# Altium schematic symbol library Microschemes.SchLib: 118 symbols (part 1 of 2)
Pins are listed as number, name and electrical type; pins without a type are passive.

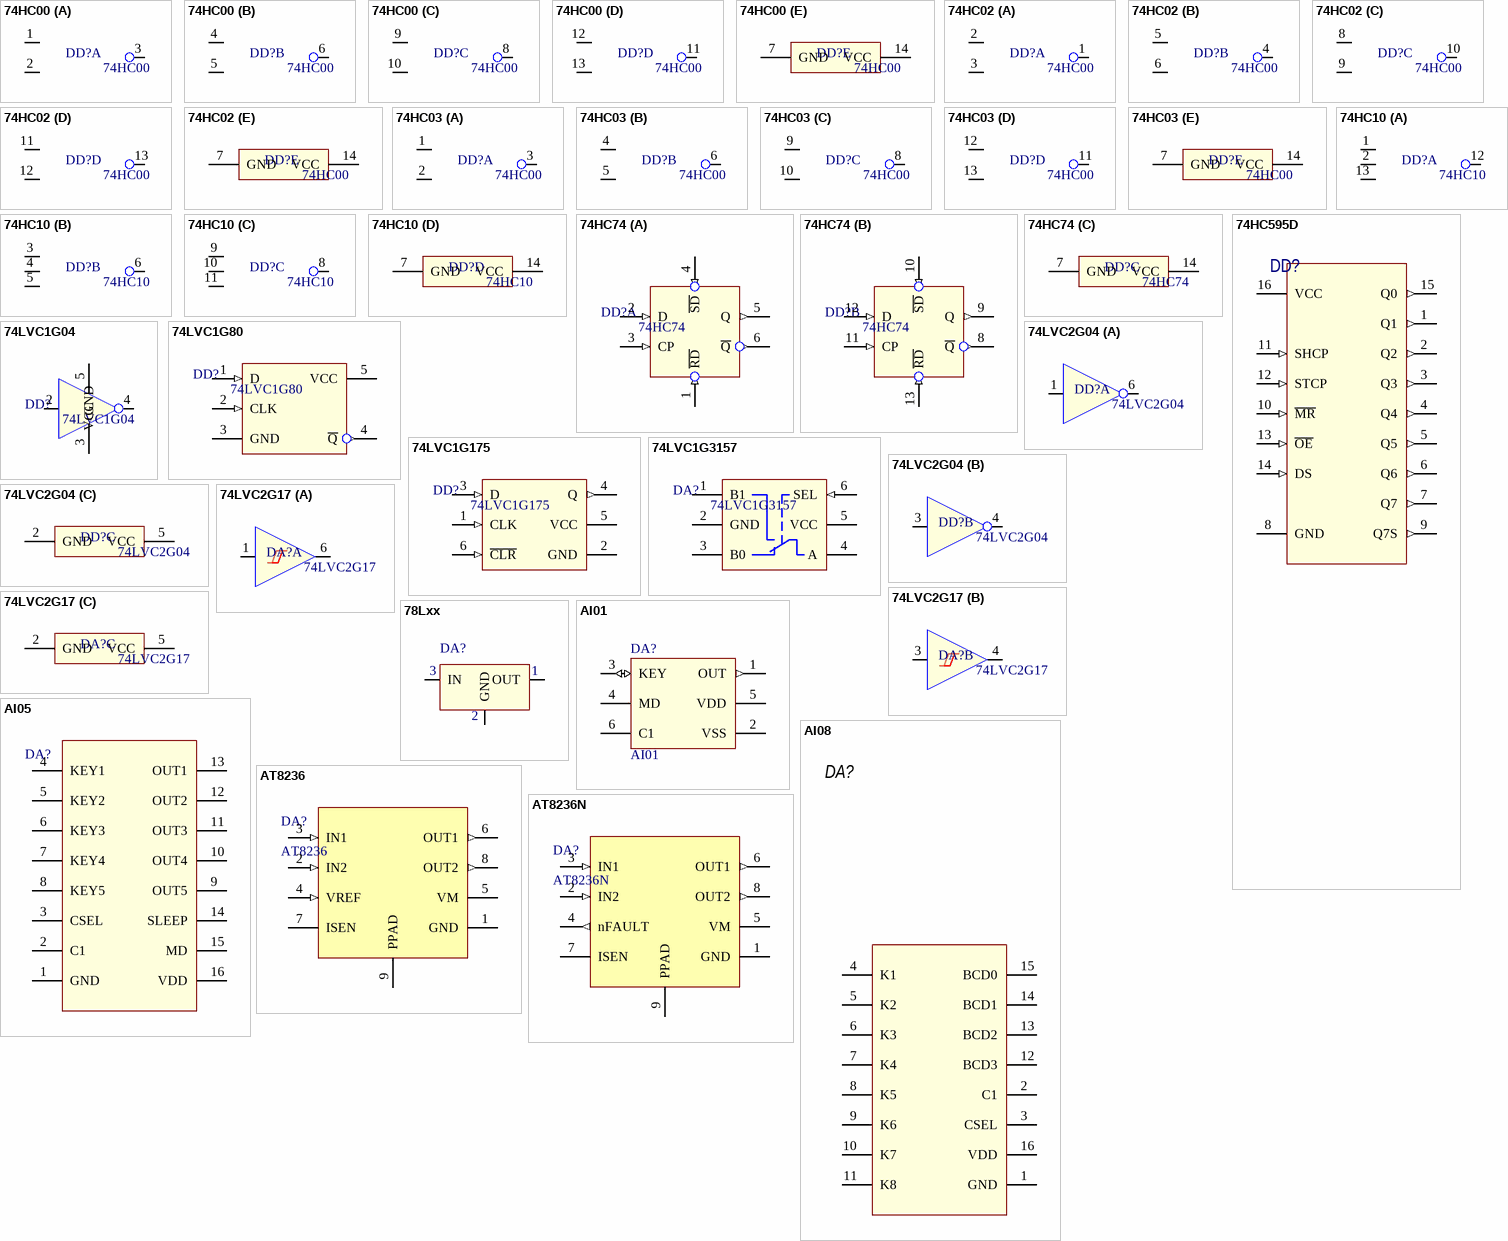
[diagram p0: symbols 74HC00 to AT8236N]

## 74HC00
designator DD?
Logic Gate, 2-input NAND; MP: LM324; Package: None; Price: None; Availability: Unavailable; Value: *
footprint SO-14
part A pins: 1 IN, 2 IN, 3 OUT
part B pins: 4 IN, 5 IN, 6 OUT
part C pins: 8 OUT, 9 IN, 10 IN
part D pins: 11 OUT, 12 IN, 13 IN
part E pins: 7 GND, 14 VCC

## 74HC02
designator DD?, comment 74HC00
Logic Gate, 2-input NOR; MP: LM324; Package: None; Price: None; Availability: Unavailable; Value: *
footprint SO-14
part A pins: 1 OUT, 2 IN, 3 IN
part B pins: 4 OUT, 5 IN, 6 IN
part C pins: 8 IN, 9 IN, 10 OUT
part D pins: 11 IN, 12 IN, 13 OUT
part E pins: 7 GND, 14 VCC

## 74HC03
designator DD?, comment 74HC00
Logic Gate, 2-input NAND; MP: LM324; Package: None; Price: None; Availability: Unavailable; Value: *
footprint SO-14
part A pins: 1 IN, 2 IN, 3 OUT
part B pins: 4 IN, 5 IN, 6 OUT
part C pins: 8 OUT, 9 IN, 10 IN
part D pins: 11 OUT, 12 IN, 13 IN
part E pins: 7 GND, 14 VCC

## 74HC10
designator DD?
Logic Gate, 3-input NAND; MP: LM324; Package: None; Price: None; Availability: Unavailable; Value: *
footprint SO-14
part A pins: 1 IN, 2 IN, 12 OUT, 13 IN
part B pins: 3 IN, 4 IN, 5 IN, 6 OUT
part C pins: 8 OUT, 9 IN, 10 IN, 11 IN
part D pins: 7 GND, 14 VCC

## 74HC74
designator DD?
Dual D-type flip-flop with set and reset; positive edge-trigger; MP: LM324; Package: None; Price: None; Availability: Unavailable; Value: *
footprint SO-14
part A pins: 1 ~{RD} (in) "Output type option pin,  1=>Toggle mode; 0=>Direct mode", 2 D (in) "Input sensor port", 3 CP (in) "Output active high or low selection,  1=>Active low; 0=>Active high", 4 ~{SD} (in) "Output type option pin,  1=>Toggle mode; 0=>Direct mode", 5 Q (out) "Ground", 6 ~{Q} (out) "Ground"
part B pins: 8 ~{Q} (out) "Ground", 9 Q (out) "Ground", 10 ~{SD} (in) "Output type option pin,  1=>Toggle mode; 0=>Direct mode", 11 CP (in) "Output active high or low selection,  1=>Active low; 0=>Active high", 12 D (in) "Input sensor port", 13 ~{RD} (in) "Output type option pin,  1=>Toggle mode; 0=>Direct mode"
part C pins: 7 GND, 14 VCC

## 74HC595D
designator DD?
High speed 8-Bit Shift Register/Latch (3-state)
footprint SO-16 (SOIC, 16-Leads, Body 9.9x3.9mm, Pitch 1.27mm)
pins: 1 Q1 (out) "TIM3_CH4,  USART3_RTS,  TIM14_CH1, TIM1_CH3N  ADC_IN9", 2 Q2 (out) "PB2", 3 Q3 (out) "SPI1_SCK, EVENTOUT", 4 Q4 (out) "SPI1_MISO, TIM17_BKIN,  TIM3_CH1, EVENTOUT", 5 Q5 (out) "SPI1_MOSI, I2C1_SMBA,  TIM16_BKIN,  TIM3_CH2  WKUP6", 6 Q6 (out) "I2C1_SCL, USART1_TX,  TIM16_CH1N", 7 Q7 (out) "I2C1_SDA, USART1_RX,  USART4_CTS,  TIM17_C", 8 GND (power) "SPI1_SCK ADC_IN5", 9 Q7S (out) "I2C1_SCL, TIM16_CH1", 10 ~{MR} (in) "USART2_TX, TIM15_CH1 ADC_IN2, WKUP4", 11 SHCP (in) "USART2_CTS,  USART4_TX  RTC_ TAMP2,  WKUP1, ADC_IN0,", 12 STCP (in) "USART2_RTS,  TIM15_CH1N,  USART4_RX, EVENTOUT  ADC_IN1", 13 ~{OE} (in) "USART2_RX, TIM15_CH2 ADC_IN3", 14 DS (in) "SPI1_NSS, TIM14_CH1,  USART2_CK,  USB_NOE(3)  ADC_IN4", 15 Q0 (out) "TIM3_CH3, TIM1_CH2N,  EVENTOUT,  USART3_CK  ADC_IN8", 16 VCC (power) "Device reset input / internal reset output (active low)"

## 74LVC1G04
designator DD?
SC-70-5/SOT23-5 Inverters ROHS; MP: LM324; Package: None; Price: None; Availability: Unavailable; Value: *
pins: 2 IN, 3 GND, 4 OUT, 5 VCC

## 74LVC1G80
designator DD?
Single D-type flip-flop; positive-edge trigger, inverted out; MP: LM324; Package: None; Price: None; Availability: Unavailable; Value: *
pins: 1 D (in) "Input sensor port", 2 CLK (in) "Output active high or low selection,  1=>Active low; 0=>Active high", 3 GND (power) "CMOS output pin", 4 ~{Q} (out) "Ground", 5 VCC (power) "Supply voltage"

## 74LVC1G175
designator DD?
Single D-type flip-flop with reset; positive-edge trigger; MP: LM324; Package: None; Price: None; Availability: Unavailable; Value: *
pins: 1 CLK (in) "Output active high or low selection,  1=>Active low; 0=>Active high", 2 GND (power) "CMOS output pin", 3 D (in) "Input sensor port", 4 Q (out) "Ground", 5 VCC (power) "Supply voltage", 6 ~{CLR} (in) "Output type option pin,  1=>Toggle mode; 0=>Direct mode"

## 74LVC1G3157
designator DA?
2-Channel Analog Multiplexer/Demultiplexer; MP: LM324; Package: None; Price: None; Availability: Unavailable; Value: *
pins: 1 B1, 2 GND (power), 3 B0, 4 A "Ground", 5 VCC (power) "Supply voltage", 6 SEL (in)

## 74LVC2G04
designator DD?
Dual Inverter SOT-363 ROHS; MP: LM324; Package: None; Price: None; Availability: Unavailable; Value: *
part A pins: 1 IN, 6 OUT
part B pins: 3 IN, 4 OUT
part C pins: 2 GND, 5 VCC

## 74LVC2G17
designator DA?
Dual Schmitt Trigger Buffer SOT-23-6 ROHS; MP: LM324; Package: None; Price: None; Availability: Unavailable; Value: *
footprint SOT-23-6 (SOT23, 6-Leads, Body 2.9x1.3mm, Pitch 0.95mm, Lead Span 2.3mm, IPC Medium Density)
part A pins: 1 IN, 6 OUT
part B pins: 3 IN, 4 OUT
part C pins: 2 GND, 5 VCC

## 78Lxx
designator DA?
Positive voltage regulator, I=100mA
footprint SOT89M (SOT89, 3-Leads, Body 4.5x2.4 mm, Pitch 1.5mm, Lead Span 4.1mm, IPC Low Density)
pins: X OUT, Y GND, Z IN
text: 3; 1; 2

## AI01
designator DA?
IC, 1ch touch pad detector IC, 2.0-5.5V
footprint SOT-23-6 (SOT23, 6-Leads, Body 2.9x1.3mm, Pitch 0.95mm, Lead Span 2.3mm, IPC Medium Density)
pins: 1 OUT (out) "CMOS output pin", 2 VSS (power) "Ground", 3 KEY (io) "Input sensor port", 4 MD "Output active high or low selection,  1=>Active low; 0=>Active high", 5 VDD (power) "Supply voltage", 6 C1 "Output type option pin,  1=>Toggle mode; 0=>Direct mode"

## AI05
designator DA?
IC, 5ch touch pad detector IC, 2.0-5.5V
pins: 1 GND "Input sensor port", 2 C1 "Input sensor port", 3 CSEL "Input sensor port", 4 KEY1 "Input sensor port", 5 KEY2 "Input sensor port", 6 KEY3 "Input sensor port", 7 KEY4 "Input sensor port", 8 KEY5 "Input sensor port", 9 OUT5 "Input sensor port", 10 OUT4 "Input sensor port", 11 OUT3 "Input sensor port", 12 OUT2 "Input sensor port", 13 OUT1 "Input sensor port", 14 SLEEP "Input sensor port", 15 MD "Input sensor port", 16 VDD "Input sensor port"

## AI08
designator DA?
IC, 8ch touch pad detector IC, 2.0-5.5V; LCSC_PartNumber: C441720
footprint SO-16 (SOIC, 16-Leads, Body 9.9x3.9mm, Pitch 1.27mm)
pins: 1 GND "Input sensor port", 2 C1 "Input sensor port", 3 CSEL "Input sensor port", 4 K1 "Input sensor port", 5 K2 "Input sensor port", 6 K3 "Input sensor port", 7 K4 "Input sensor port", 8 K5 "Input sensor port", 9 K6 "Input sensor port", 10 K7 "Input sensor port", 11 K8 "Input sensor port", 12 BCD3 "Input sensor port", 13 BCD2 "Input sensor port", 14 BCD1 "Input sensor port", 15 BCD0 "Input sensor port", 16 VDD "Input sensor port"

## AT8236
designator DA?
SOP-8-EP Motor Driver ICs ROHS
footprint ESOP8 (SOIC, 8-Leads, Body 4.9x3.9mm, Pitch 1.27mm)
pins: 1 GND, 2 IN2 (in), 3 IN1 (in), 4 VREF (in), 5 VM (power), 6 OUT1 (out), 7 ISEN (power), 8 OUT2 (out), 9 PPAD

## AT8236N
designator DA?
SOP-8-EP Motor Driver ICs ROHS
footprint ESOP8 (SOIC, 8-Leads, Body 4.9x3.9mm, Pitch 1.27mm)
pins: 1 GND, 2 IN2 (in), 3 IN1 (in), 4 nFAULT (out), 5 VM (power), 6 OUT1 (out), 7 ISEN (power), 8 OUT2 (out), 9 PPAD

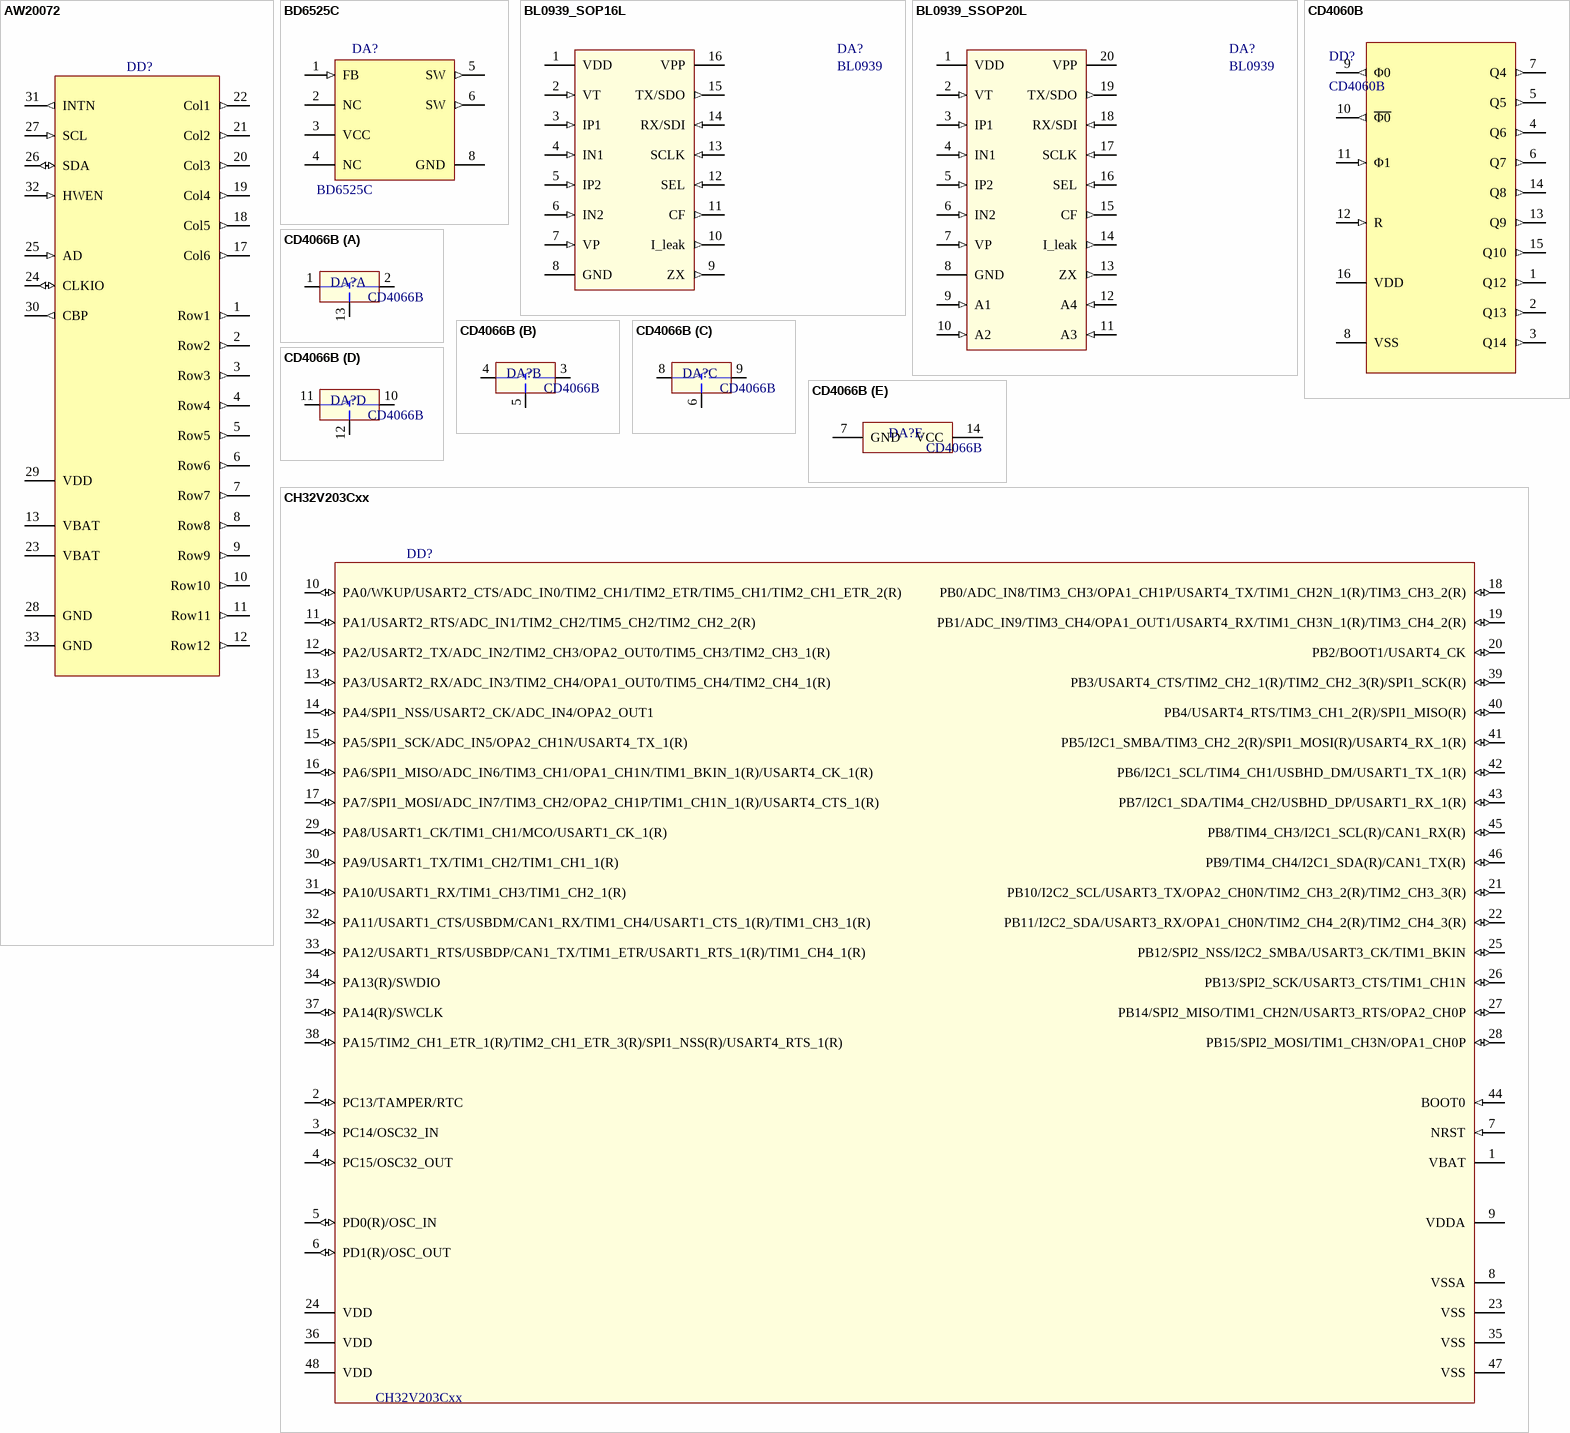
[diagram p1: symbols AW20072 to CH32V203Cxx]

## AW20072
designator DD?
6x12 MATRIX LED DRIVER WITH AUTO BREATH
footprint QFN4x4-32L
pins: 1 Row1 (out), 2 Row2 (out), 3 Row3 (out), 4 Row4 (out), 5 Row5 (out), 6 Row6 (out), 7 Row7 (out), 8 Row8 (out), 9 Row9 (out), 10 Row10 (out), 11 Row11 (out), 12 Row12 (out), 13 VBAT (power), 17 Col6 (out), 18 Col5 (out), 19 Col4 (out), 20 Col3 (out), 21 Col2 (out), 22 Col1 (out), 23 VBAT (power), 24 CLKIO (io), 25 AD (in), 26 SDA (io), 27 SCL (in), 28 GND (power), 29 VDD (power), 30 CBP (out), 31 INTN (out), 32 HWEN (in), 33 GND (power)

## BD6525C
designator DA?
High Precision CC/CV Primary-Side Converter, SOP-7
footprint SOP-7 (SOIC, 7-Leads, Body 4.9x3.9mm, Pitch 1.27mm)
pins: 1 FB (in), 2 NC, 3 VCC (power), 4 NC, 5 SW (out), 6 SW (out), 8 GND (power)

## BL0939_SOP16L
designator DA?, comment BL0939
Energy Metering ICs, SOP16L ROHS
pins: 1 VDD (power), 2 VT (in), 3 IP1 (in), 4 IN1 (in), 5 IP2 (in), 6 IN2 (in), 7 VP (in), 8 GND (power), 9 ZX (out), 10 I_leak (out), 11 CF (out), 12 SEL (in), 13 SCLK (in), 14 RX/SDI (in), 15 TX/SDO (out), 16 VPP

## BL0939_SSOP20L
designator DA?, comment BL0939
Energy Metering ICs, SSOP20L ROHS
pins: 1 VDD (power), 2 VT (in), 3 IP1 (in), 4 IN1 (in), 5 IP2 (in), 6 IN2 (in), 7 VP (in), 8 GND (power), 9 A1 (in), 10 A2 (in), 11 A3 (in), 12 A4 (in), 13 ZX (out), 14 I_leak (out), 15 CF (out), 16 SEL (in), 17 SCLK (in), 18 RX/SDI (in), 19 TX/SDO (out), 20 VPP

## CD4060B
designator DD?
Cmos 14-Stage Ripple-Carry Binary Counter/Divider and Oscillator
pins: 1 Q12 (out), 2 Q13 (out), 3 Q14 (out), 4 Q6 (out), 5 Q5 (out), 6 Q7 (out), 7 Q4 (out), 8 VSS (power), 9 Φ0 (out), 10 ~{Φ0} (out), 11 Φ1 (in), 12 R (in), 13 Q9 (out), 14 Q8 (out), 15 Q10 (out), 16 VDD (power)

## CD4066B
designator DA?
CMOS Quad Bilateral Switch; MP: LM324; Package: None; Price: None; Availability: Unavailable; Value: *
part A pins: 1 IN, 2 OUT, 13 IN
part B pins: 3 OUT, 4 IN, 5 IN
part C pins: 6 IN, 8 IN, 9 OUT
part D pins: 10 OUT, 11 IN, 12 IN
part E pins: 7 GND, 14 VCC

## CH32V203Cxx
designator DD?
RISC-V 144MHz LQFP-48(7x7) Microcontroller Units (MCUs/MPUs/SOCs)
pins: 1 VBAT (power) "Analog power supply", 2 PC13/TAMPER/RTC (io) "WKUP2,  RTC_TAMP1,  RTC_TS,  RTC_OUT", 3 PC14/OSC32_IN (io) "OSC32_IN", 4 PC15/OSC32_OUT (io) "OSC32_OU", 5 PD0(R)/OSC_IN (io) "I2C1_SDA, OSC_IN", 6 PD1(R)/OSC_OUT (io) "I2C1_SCL, OSC_OUT", 7 NRST (in) "Device reset input / internal reset output (active low)", 8 VSSA (power) "Analog ground", 9 VDDA (power) "Digital power supply", 10 PA0/WKUP/USART2_CTS/ADC_IN0/TIM2_CH1/TIM2_ETR/TIM5_CH1/TIM2_CH1_ETR_2(R) (io), 11 PA1/USART2_RTS/ADC_IN1/TIM2_CH2/TIM5_CH2/TIM2_CH2_2(R) (io), 12 PA2/USART2_TX/ADC_IN2/TIM2_CH3/OPA2_OUT0/TIM5_CH3/TIM2_CH3_1(R) (io), 13 PA3/USART2_RX/ADC_IN3/TIM2_CH4/OPA1_OUT0/TIM5_CH4/TIM2_CH4_1(R) (io), 14 PA4/SPI1_NSS/USART2_CK/ADC_IN4/OPA2_OUT1 (io), 15 PA5/SPI1_SCK/ADC_IN5/OPA2_CH1N/USART4_TX_1(R) (io), 16 PA6/SPI1_MISO/ADC_IN6/TIM3_CH1/OPA1_CH1N/TIM1_BKIN_1(R)/USART4_CK_1(R) (io), 17 PA7/SPI1_MOSI/ADC_IN7/TIM3_CH2/OPA2_CH1P/TIM1_CH1N_1(R)/USART4_CTS_1(R) (io), 18 PB0/ADC_IN8/TIM3_CH3/OPA1_CH1P/USART4_TX/TIM1_CH2N_1(R)/TIM3_CH3_2(R) (io), 19 PB1/ADC_IN9/TIM3_CH4/OPA1_OUT1/USART4_RX/TIM1_CH3N_1(R)/TIM3_CH4_2(R) (io), 20 PB2/BOOT1/USART4_CK (io) "PB2", 21 PB10/I2C2_SCL/USART3_TX/OPA2_CH0N/TIM2_CH3_2(R)/TIM2_CH3_3(R) (io), 22 PB11/I2C2_SDA/USART3_RX/OPA1_CH0N/TIM2_CH4_2(R)/TIM2_CH4_3(R) (io), 23 VSS (power) "Graound", 24 VDD (power) "Digital power supply", 25 PB12/SPI2_NSS/I2C2_SMBA/USART3_CK/TIM1_BKIN (io), 26 PB13/SPI2_SCK/USART3_CTS/TIM1_CH1N (io), 27 PB14/SPI2_MISO/TIM1_CH2N/USART3_RTS/OPA2_CH0P (io), 28 PB15/SPI2_MOSI/TIM1_CH3N/OPA1_CH0P (io), 29 PA8/USART1_CK/TIM1_CH1/MCO/USART1_CK_1(R) (io), 30 PA9/USART1_TX/TIM1_CH2/TIM1_CH1_1(R) (io), 31 PA10/USART1_RX/TIM1_CH3/TIM1_CH2_1(R) (io), 32 PA11/USART1_CTS/USBDM/CAN1_RX/TIM1_CH4/USART1_CTS_1(R)/TIM1_CH3_1(R) (io), 33 PA12/USART1_RTS/USBDP/CAN1_TX/TIM1_ETR/USART1_RTS_1(R)/TIM1_CH4_1(R) (io), 34 PA13(R)/SWDIO (io), 35 VSS (power) "Ground", 36 VDD (power) "Digital power supply", 37 PA14(R)/SWCLK (io), 38 PA15/TIM2_CH1_ETR_1(R)/TIM2_CH1_ETR_3(R)/SPI1_NSS(R)/USART4_RTS_1(R) (io), 39 PB3/USART4_CTS/TIM2_CH2_1(R)/TIM2_CH2_3(R)/SPI1_SCK(R) (io), 40 PB4/USART4_RTS/TIM3_CH1_2(R)/SPI1_MISO(R) (io), 41 PB5/I2C1_SMBA/TIM3_CH2_2(R)/SPI1_MOSI(R)/USART4_RX_1(R) (io), 42 PB6/I2C1_SCL/TIM4_CH1/USBHD_DM/USART1_TX_1(R) (io), 43 PB7/I2C1_SDA/TIM4_CH2/USBHD_DP/USART1_RX_1(R) (io), 44 BOOT0 (in) "Boot memory selection", 45 PB8/TIM4_CH3/I2C1_SCL(R)/CAN1_RX(R) (io), 46 PB9/TIM4_CH4/I2C1_SDA(R)/CAN1_TX(R) (io), 47 VSS (power) "Ground", 48 VDD (power) "Digital power supply"

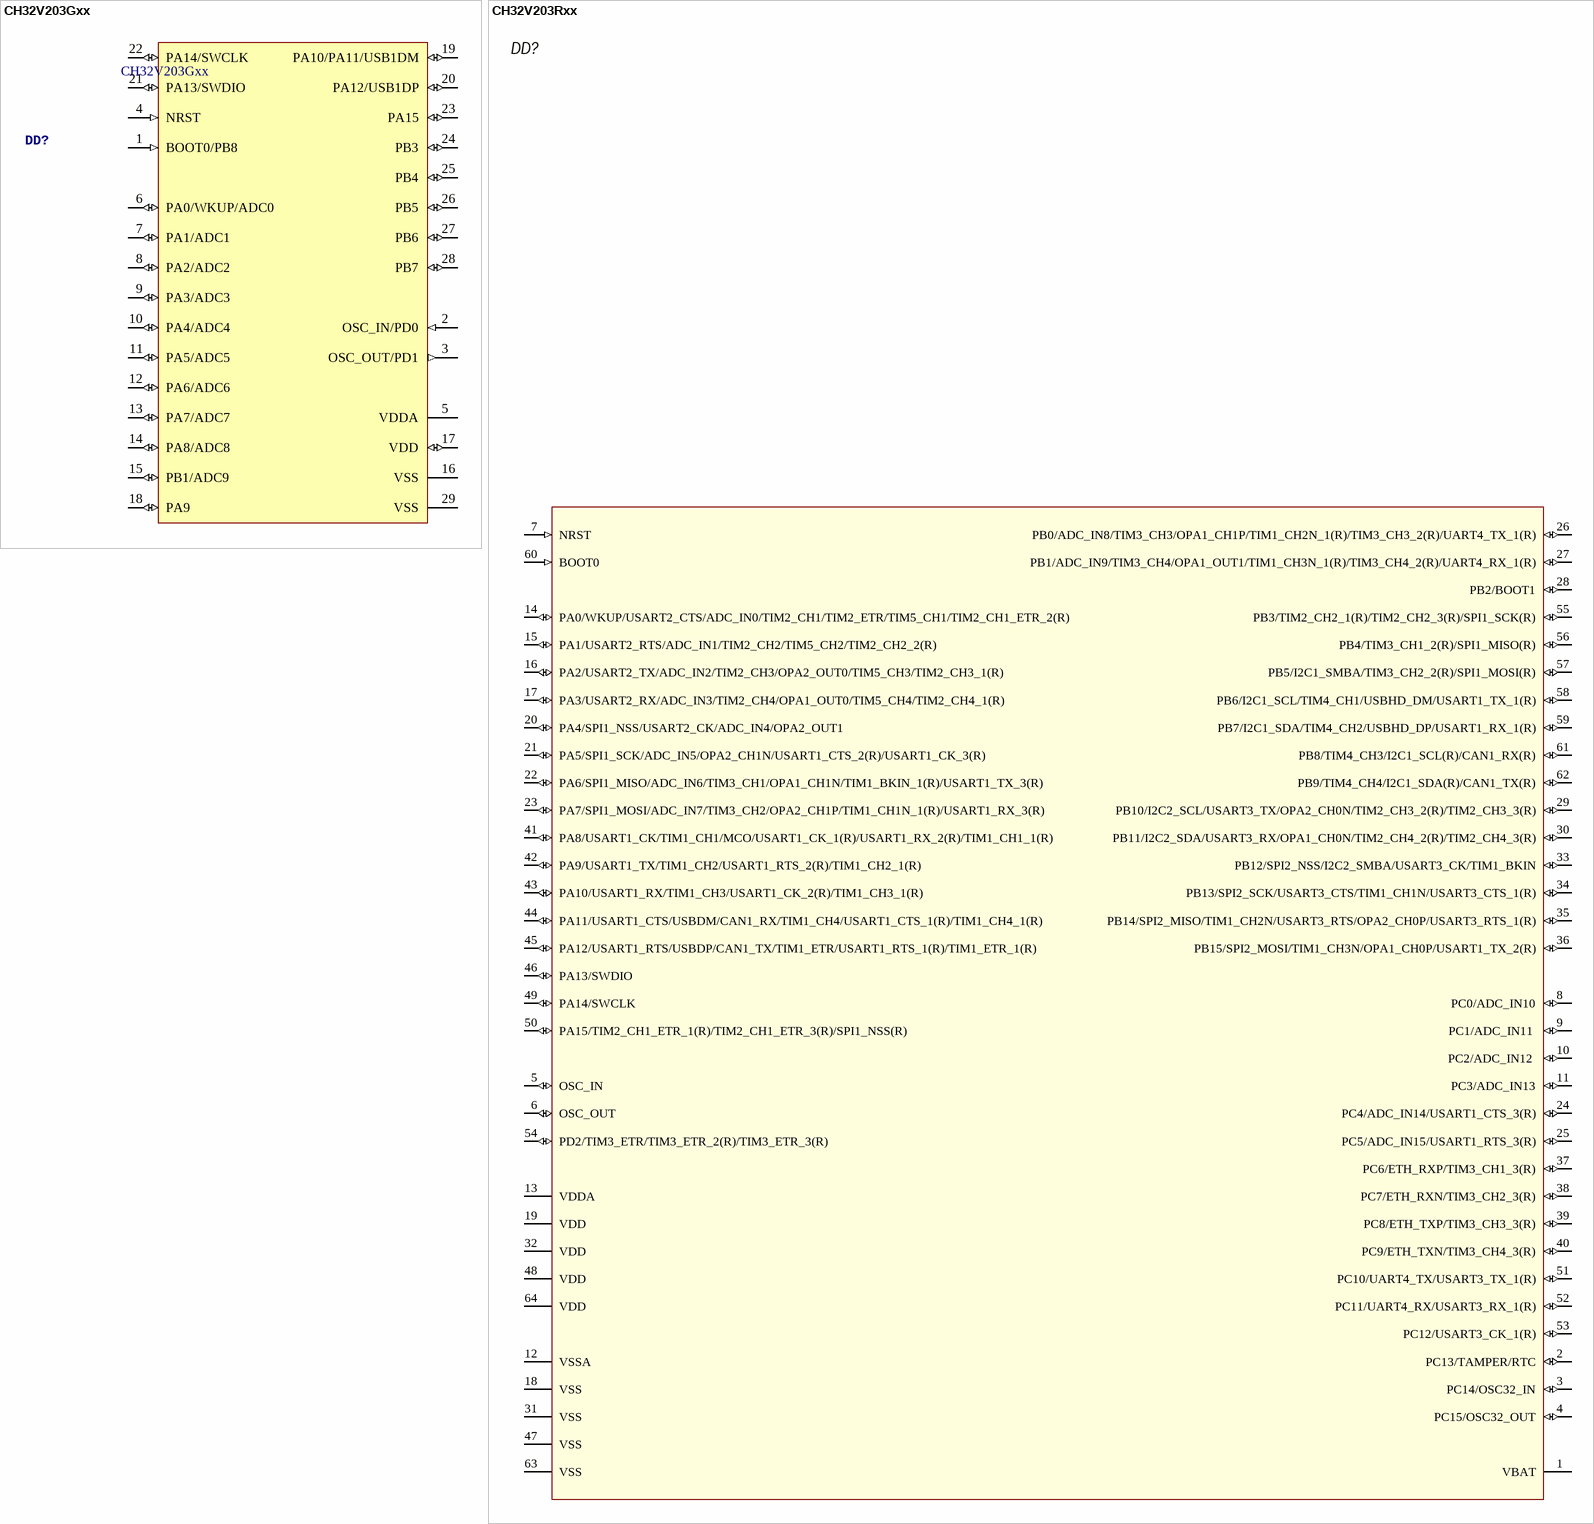
[diagram p2: symbols CH32V203Gxx to CH32V203Rxx]

## CH32V203Gxx
designator DD?
RISC-V QFN28X4 Microcontroller Units (MCUs/MPUs/SOCs)
footprint QFN32 (QFN, 32-Leads, Body 5.00x5.00mm, Pitch 0.50mm, Thermal Pad 3.60x3.60mm, IPC Medium Density (Vanchik for ESP8266EX))
pins: 1 BOOT0/PB8 (in), 2 OSC_IN/PD0 (in), 3 OSC_OUT/PD1 (out), 4 NRST (in), 5 VDDA (power), 6 PA0/WKUP/ADC0 (io), 7 PA1/ADC1 (io), 8 PA2/ADC2 (io), 9 PA3/ADC3 (io), 10 PA4/ADC4 (io), 11 PA5/ADC5 (io), 12 PA6/ADC6 (io), 13 PA7/ADC7 (io), 14 PA8/ADC8 (io), 15 PB1/ADC9 (io), 16 VSS (power), 17 VDD (io), 18 PA9 (io), 19 PA10/PA11/USB1DM (io), 20 PA12/USB1DP (io), 21 PA13/SWDIO (io), 22 PA14/SWCLK (io), 23 PA15 (io), 24 PB3 (io), 25 PB4 (io), 26 PB5 (io), 27 PB6 (io), 28 PB7 (io), 29 VSS (power)

## CH32V203Rxx
designator DD?  (value not drawn)
IC, LQFP-64, 32-bit RISC-V Microcontroller; Manufacturer: ST; Name: STM32F101RCT6; Group: Микросхемы; Value: Микроконтроллер; Supplier: ООО"Торгэлектроника"
footprint LQFP64
pins: 1 VBAT (power) "Analog power supply", 2 PC13/TAMPER/RTC (io) "WKUP2,  RTC_TAMP1,  RTC_TS,  RTC_OUT", 3 PC14/OSC32_IN (io) "OSC32_IN", 4 PC15/OSC32_OUT (io) "OSC32_OU", 5 OSC_IN (io) "I2C1_SDA, OSC_IN", 6 OSC_OUT (io) "I2C1_SCL, OSC_OUT", 7 NRST (in) "Device reset input / internal reset output (active low)", 8 PC0/ADC_IN10 (io), 9 PC1/ADC_IN11  (io), 10 PC2/ADC_IN12  (io), 11 PC3/ADC_IN13 (io), 12 VSSA (power) "Analog ground", 13 VDDA (power) "Digital power supply", 14 PA0/WKUP/USART2_CTS/ADC_IN0/TIM2_CH1/TIM2_ETR/TIM5_CH1/TIM2_CH1_ETR_2(R) (io), 15 PA1/USART2_RTS/ADC_IN1/TIM2_CH2/TIM5_CH2/TIM2_CH2_2(R) (io), 16 PA2/USART2_TX/ADC_IN2/TIM2_CH3/OPA2_OUT0/TIM5_CH3/TIM2_CH3_1(R) (io), 17 PA3/USART2_RX/ADC_IN3/TIM2_CH4/OPA1_OUT0/TIM5_CH4/TIM2_CH4_1(R) (io), 18 VSS (power) "Graound", 19 VDD (power) "Digital power supply", 20 PA4/SPI1_NSS/USART2_CK/ADC_IN4/OPA2_OUT1 (io), 21 PA5/SPI1_SCK/ADC_IN5/OPA2_CH1N/USART1_CTS_2(R)/USART1_CK_3(R) (io), 22 PA6/SPI1_MISO/ADC_IN6/TIM3_CH1/OPA1_CH1N/TIM1_BKIN_1(R)/USART1_TX_3(R) (io), 23 PA7/SPI1_MOSI/ADC_IN7/TIM3_CH2/OPA2_CH1P/TIM1_CH1N_1(R)/USART1_RX_3(R) (io), 24 PC4/ADC_IN14/USART1_CTS_3(R) (io), 25 PC5/ADC_IN15/USART1_RTS_3(R) (io), 26 PB0/ADC_IN8/TIM3_CH3/OPA1_CH1P/TIM1_CH2N_1(R)/TIM3_CH3_2(R)/UART4_TX_1(R) (io), 27 PB1/ADC_IN9/TIM3_CH4/OPA1_OUT1/TIM1_CH3N_1(R)/TIM3_CH4_2(R)/UART4_RX_1(R) (io), 28 PB2/BOOT1 (io) "PB2", 29 PB10/I2C2_SCL/USART3_TX/OPA2_CH0N/TIM2_CH3_2(R)/TIM2_CH3_3(R) (io), 30 PB11/I2C2_SDA/USART3_RX/OPA1_CH0N/TIM2_CH4_2(R)/TIM2_CH4_3(R) (io), 31 VSS (power) "Graound", 32 VDD (power) "Digital power supply", 33 PB12/SPI2_NSS/I2C2_SMBA/USART3_CK/TIM1_BKIN (io), 34 PB13/SPI2_SCK/USART3_CTS/TIM1_CH1N/USART3_CTS_1(R) (io), 35 PB14/SPI2_MISO/TIM1_CH2N/USART3_RTS/OPA2_CH0P/USART3_RTS_1(R) (io), 36 PB15/SPI2_MOSI/TIM1_CH3N/OPA1_CH0P/USART1_TX_2(R) (io), 37 PC6/ETH_RXP/TIM3_CH1_3(R) (io), 38 PC7/ETH_RXN/TIM3_CH2_3(R) (io), 39 PC8/ETH_TXP/TIM3_CH3_3(R) (io), 40 PC9/ETH_TXN/TIM3_CH4_3(R) (io), 41 PA8/USART1_CK/TIM1_CH1/MCO/USART1_CK_1(R)/USART1_RX_2(R)/TIM1_CH1_1(R) (io), 42 PA9/USART1_TX/TIM1_CH2/USART1_RTS_2(R)/TIM1_CH2_1(R) (io), 43 PA10/USART1_RX/TIM1_CH3/USART1_CK_2(R)/TIM1_CH3_1(R) (io), 44 PA11/USART1_CTS/USBDM/CAN1_RX/TIM1_CH4/USART1_CTS_1(R)/TIM1_CH4_1(R) (io), 45 PA12/USART1_RTS/USBDP/CAN1_TX/TIM1_ETR/USART1_RTS_1(R)/TIM1_ETR_1(R) (io), 46 PA13/SWDIO (io), 47 VSS (power) "Ground", 48 VDD (power) "Digital power supply", 49 PA14/SWCLK (io), 50 PA15/TIM2_CH1_ETR_1(R)/TIM2_CH1_ETR_3(R)/SPI1_NSS(R) (io), 51 PC10/UART4_TX/USART3_TX_1(R) (io), 52 PC11/UART4_RX/USART3_RX_1(R) (io), 53 PC12/USART3_CK_1(R) (io), 54 PD2/TIM3_ETR/TIM3_ETR_2(R)/TIM3_ETR_3(R) (io), 55 PB3/TIM2_CH2_1(R)/TIM2_CH2_3(R)/SPI1_SCK(R) (io), 56 PB4/TIM3_CH1_2(R)/SPI1_MISO(R) (io), 57 PB5/I2C1_SMBA/TIM3_CH2_2(R)/SPI1_MOSI(R) (io), 58 PB6/I2C1_SCL/TIM4_CH1/USBHD_DM/USART1_TX_1(R) (io), 59 PB7/I2C1_SDA/TIM4_CH2/USBHD_DP/USART1_RX_1(R) (io), 60 BOOT0 (in) "Boot memory selection", 61 PB8/TIM4_CH3/I2C1_SCL(R)/CAN1_RX(R) (io), 62 PB9/TIM4_CH4/I2C1_SDA(R)/CAN1_TX(R) (io), 63 VSS (power) "Ground", 64 VDD (power) "Digital power supply"

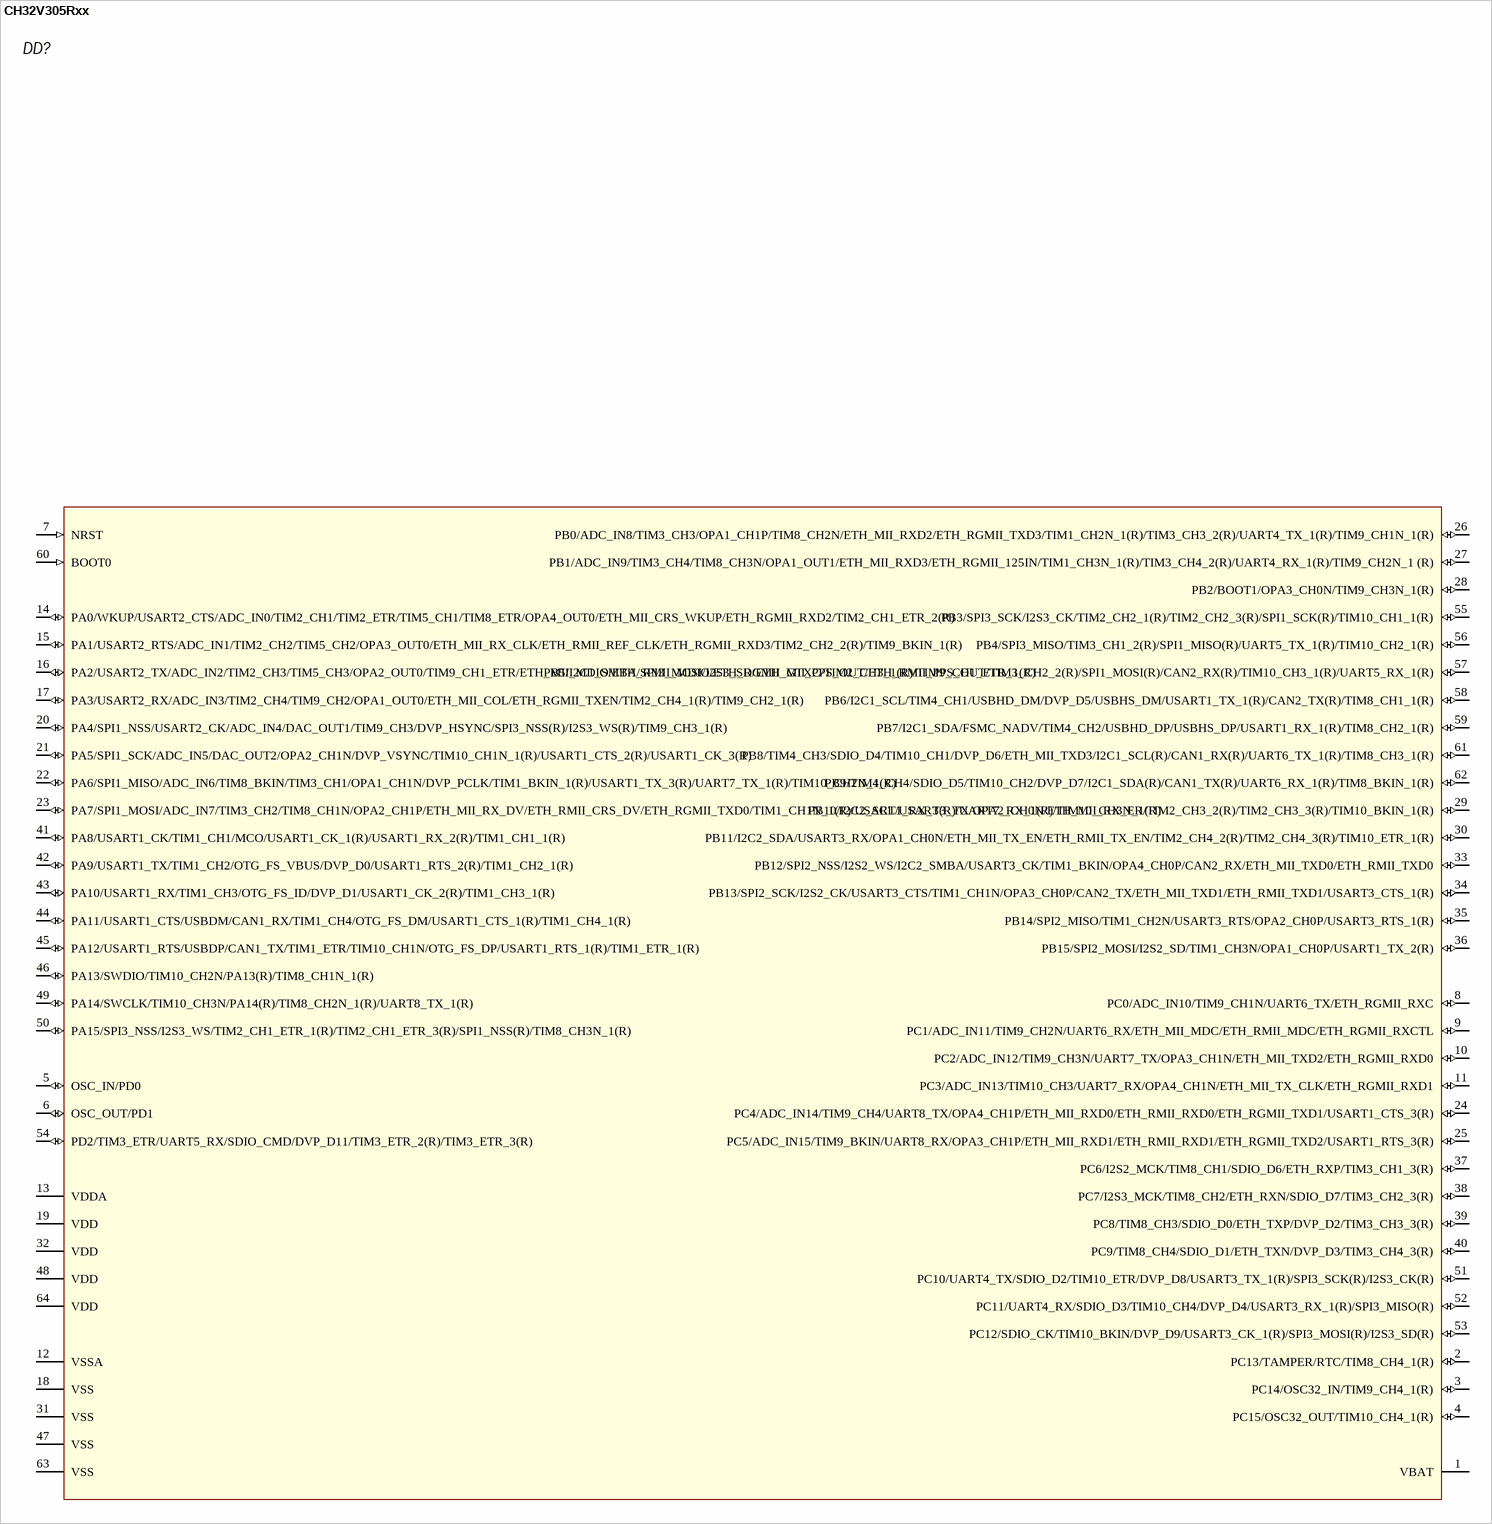
[diagram p3: symbol CH32V305Rxx]

## CH32V305Rxx
designator DD?  (value not drawn)
IC, LQFP-64, 32-bit RISC-V Microcontroller; Manufacturer: ST; Name: STM32F101RCT6; Group: Микросхемы; Value: Микроконтроллер; Supplier: ООО"Торгэлектроника"
footprint LQFP64
pins: 1 VBAT (power), 2 PC13/TAMPER/RTC/TIM8_CH4_1(R) (io), 3 PC14/OSC32_IN/TIM9_CH4_1(R) (io), 4 PC15/OSC32_OUT/TIM10_CH4_1(R) (io), 5 OSC_IN/PD0 (io), 6 OSC_OUT/PD1 (io), 7 NRST (in), 8 PC0/ADC_IN10/TIM9_CH1N/UART6_TX/ETH_RGMII_RXC (io), 9 PC1/ADC_IN11/TIM9_CH2N/UART6_RX/ETH_MII_MDC/ETH_RMII_MDC/ETH_RGMII_RXCTL (io), 10 PC2/ADC_IN12/TIM9_CH3N/UART7_TX/OPA3_CH1N/ETH_MII_TXD2/ETH_RGMII_RXD0 (io), 11 PC3/ADC_IN13/TIM10_CH3/UART7_RX/OPA4_CH1N/ETH_MII_TX_CLK/ETH_RGMII_RXD1 (io), 12 VSSA (power), 13 VDDA (power), 14 PA0/WKUP/USART2_CTS/ADC_IN0/TIM2_CH1/TIM2_ETR/TIM5_CH1/TIM8_ETR/OPA4_OUT0/ETH_MII_CRS_WKUP/ETH_RGMII_RXD2/TIM2_CH1_ETR_2(R) (io), 15 PA1/USART2_RTS/ADC_IN1/TIM2_CH2/TIM5_CH2/OPA3_OUT0/ETH_MII_RX_CLK/ETH_RMII_REF_CLK/ETH_RGMII_RXD3/TIM2_CH2_2(R)/TIM9_BKIN_1(R) (io), 16 PA2/USART2_TX/ADC_IN2/TIM2_CH3/TIM5_CH3/OPA2_OUT0/TIM9_CH1_ETR/ETH_MII_MDIO/ETH_RMII_MDIO/ETH_RGMII_GTXC/TIM2_CH3_1(R)/TIM9_CH1_ETR_1(R) (io), 17 PA3/USART2_RX/ADC_IN3/TIM2_CH4/TIM9_CH2/OPA1_OUT0/ETH_MII_COL/ETH_RGMII_TXEN/TIM2_CH4_1(R)/TIM9_CH2_1(R) (io), 18 VSS (power), 19 VDD (power), 20 PA4/SPI1_NSS/USART2_CK/ADC_IN4/DAC_OUT1/TIM9_CH3/DVP_HSYNC/SPI3_NSS(R)/I2S3_WS(R)/TIM9_CH3_1(R) (io), 21 PA5/SPI1_SCK/ADC_IN5/DAC_OUT2/OPA2_CH1N/DVP_VSYNC/TIM10_CH1N_1(R)/USART1_CTS_2(R)/USART1_CK_3(R) (io), 22 PA6/SPI1_MISO/ADC_IN6/TIM8_BKIN/TIM3_CH1/OPA1_CH1N/DVP_PCLK/TIM1_BKIN_1(R)/USART1_TX_3(R)/UART7_TX_1(R)/TIM10_CH2N_1(R) (io), 23 PA7/SPI1_MOSI/ADC_IN7/TIM3_CH2/TIM8_CH1N/OPA2_CH1P/ETH_MII_RX_DV/ETH_RMII_CRS_DV/ETH_RGMII_TXD0/TIM1_CH1N_1(R)/USART1_RX_3(R)/UART7_RX_1(R)/TIM10_CH3N_1(R) (io), 24 PC4/ADC_IN14/TIM9_CH4/UART8_TX/OPA4_CH1P/ETH_MII_RXD0/ETH_RMII_RXD0/ETH_RGMII_TXD1/USART1_CTS_3(R) (io), 25 PC5/ADC_IN15/TIM9_BKIN/UART8_RX/OPA3_CH1P/ETH_MII_RXD1/ETH_RMII_RXD1/ETH_RGMII_TXD2/USART1_RTS_3(R) (io), 26 PB0/ADC_IN8/TIM3_CH3/OPA1_CH1P/TIM8_CH2N/ETH_MII_RXD2/ETH_RGMII_TXD3/TIM1_CH2N_1(R)/TIM3_CH3_2(R)/UART4_TX_1(R)/TIM9_CH1N_1(R) (io), 27 PB1/ADC_IN9/TIM3_CH4/TIM8_CH3N/OPA1_OUT1/ETH_MII_RXD3/ETH_RGMII_125IN/TIM1_CH3N_1(R)/TIM3_CH4_2(R)/UART4_RX_1(R)/TIM9_CH2N_1 (R) (io), 28 PB2/BOOT1/OPA3_CH0N/TIM9_CH3N_1(R) (io), 29 PB10/I2C2_SCL/USART3_TX/OPA2_CH0N/ETH_MII_RX_ER/TIM2_CH3_2(R)/TIM2_CH3_3(R)/TIM10_BKIN_1(R) (io), 30 PB11/I2C2_SDA/USART3_RX/OPA1_CH0N/ETH_MII_TX_EN/ETH_RMII_TX_EN/TIM2_CH4_2(R)/TIM2_CH4_3(R)/TIM10_ETR_1(R) (io), 31 VSS (power), 32 VDD (power), 33 PB12/SPI2_NSS/I2S2_WS/I2C2_SMBA/USART3_CK/TIM1_BKIN/OPA4_CH0P/CAN2_RX/ETH_MII_TXD0/ETH_RMII_TXD0 (io), 34 PB13/SPI2_SCK/I2S2_CK/USART3_CTS/TIM1_CH1N/OPA3_CH0P/CAN2_TX/ETH_MII_TXD1/ETH_RMII_TXD1/USART3_CTS_1(R) (io), 35 PB14/SPI2_MISO/TIM1_CH2N/USART3_RTS/OPA2_CH0P/USART3_RTS_1(R) (io), 36 PB15/SPI2_MOSI/I2S2_SD/TIM1_CH3N/OPA1_CH0P/USART1_TX_2(R) (io), 37 PC6/I2S2_MCK/TIM8_CH1/SDIO_D6/ETH_RXP/TIM3_CH1_3(R) (io), 38 PC7/I2S3_MCK/TIM8_CH2/ETH_RXN/SDIO_D7/TIM3_CH2_3(R) (io), 39 PC8/TIM8_CH3/SDIO_D0/ETH_TXP/DVP_D2/TIM3_CH3_3(R) (io), 40 PC9/TIM8_CH4/SDIO_D1/ETH_TXN/DVP_D3/TIM3_CH4_3(R) (io), 41 PA8/USART1_CK/TIM1_CH1/MCO/USART1_CK_1(R)/USART1_RX_2(R)/TIM1_CH1_1(R) (io), 42 PA9/USART1_TX/TIM1_CH2/OTG_FS_VBUS/DVP_D0/USART1_RTS_2(R)/TIM1_CH2_1(R) (io), 43 PA10/USART1_RX/TIM1_CH3/OTG_FS_ID/DVP_D1/USART1_CK_2(R)/TIM1_CH3_1(R) (io), 44 PA11/USART1_CTS/USBDM/CAN1_RX/TIM1_CH4/OTG_FS_DM/USART1_CTS_1(R)/TIM1_CH4_1(R) (io), 45 PA12/USART1_RTS/USBDP/CAN1_TX/TIM1_ETR/TIM10_CH1N/OTG_FS_DP/USART1_RTS_1(R)/TIM1_ETR_1(R) (io), 46 PA13/SWDIO/TIM10_CH2N/PA13(R)/TIM8_CH1N_1(R) (io), 47 VSS (power), 48 VDD (power), 49 PA14/SWCLK/TIM10_CH3N/PA14(R)/TIM8_CH2N_1(R)/UART8_TX_1(R) (io), 50 PA15/SPI3_NSS/I2S3_WS/TIM2_CH1_ETR_1(R)/TIM2_CH1_ETR_3(R)/SPI1_NSS(R)/TIM8_CH3N_1(R) (io), 51 PC10/UART4_TX/SDIO_D2/TIM10_ETR/DVP_D8/USART3_TX_1(R)/SPI3_SCK(R)/I2S3_CK(R) (io), 52 PC11/UART4_RX/SDIO_D3/TIM10_CH4/DVP_D4/USART3_RX_1(R)/SPI3_MISO(R) (io), 53 PC12/SDIO_CK/TIM10_BKIN/DVP_D9/USART3_CK_1(R)/SPI3_MOSI(R)/I2S3_SD(R) (io), 54 PD2/TIM3_ETR/UART5_RX/SDIO_CMD/DVP_D11/TIM3_ETR_2(R)/TIM3_ETR_3(R) (io), 55 PB3/SPI3_SCK/I2S3_CK/TIM2_CH2_1(R)/TIM2_CH2_3(R)/SPI1_SCK(R)/TIM10_CH1_1(R) (io), 56 PB4/SPI3_MISO/TIM3_CH1_2(R)/SPI1_MISO(R)/UART5_TX_1(R)/TIM10_CH2_1(R) (io), 57 PB5/I2C1_SMBA/SPI3_MOSI/I2S3_SD/ETH_MII_PPS_OUT/ETH_RMII_PPS_OUT/TIM3_CH2_2(R)/SPI1_MOSI(R)/CAN2_RX(R)/TIM10_CH3_1(R)/UART5_RX_1(R) (io), 58 PB6/I2C1_SCL/TIM4_CH1/USBHD_DM/DVP_D5/USBHS_DM/USART1_TX_1(R)/CAN2_TX(R)/TIM8_CH1_1(R) (io), 59 PB7/I2C1_SDA/FSMC_NADV/TIM4_CH2/USBHD_DP/USBHS_DP/USART1_RX_1(R)/TIM8_CH2_1(R) (io), 60 BOOT0 (in), 61 PB8/TIM4_CH3/SDIO_D4/TIM10_CH1/DVP_D6/ETH_MII_TXD3/I2C1_SCL(R)/CAN1_RX(R)/UART6_TX_1(R)/TIM8_CH3_1(R) (io), 62 PB9/TIM4_CH4/SDIO_D5/TIM10_CH2/DVP_D7/I2C1_SDA(R)/CAN1_TX(R)/UART6_RX_1(R)/TIM8_BKIN_1(R) (io), 63 VSS (power), 64 VDD (power)

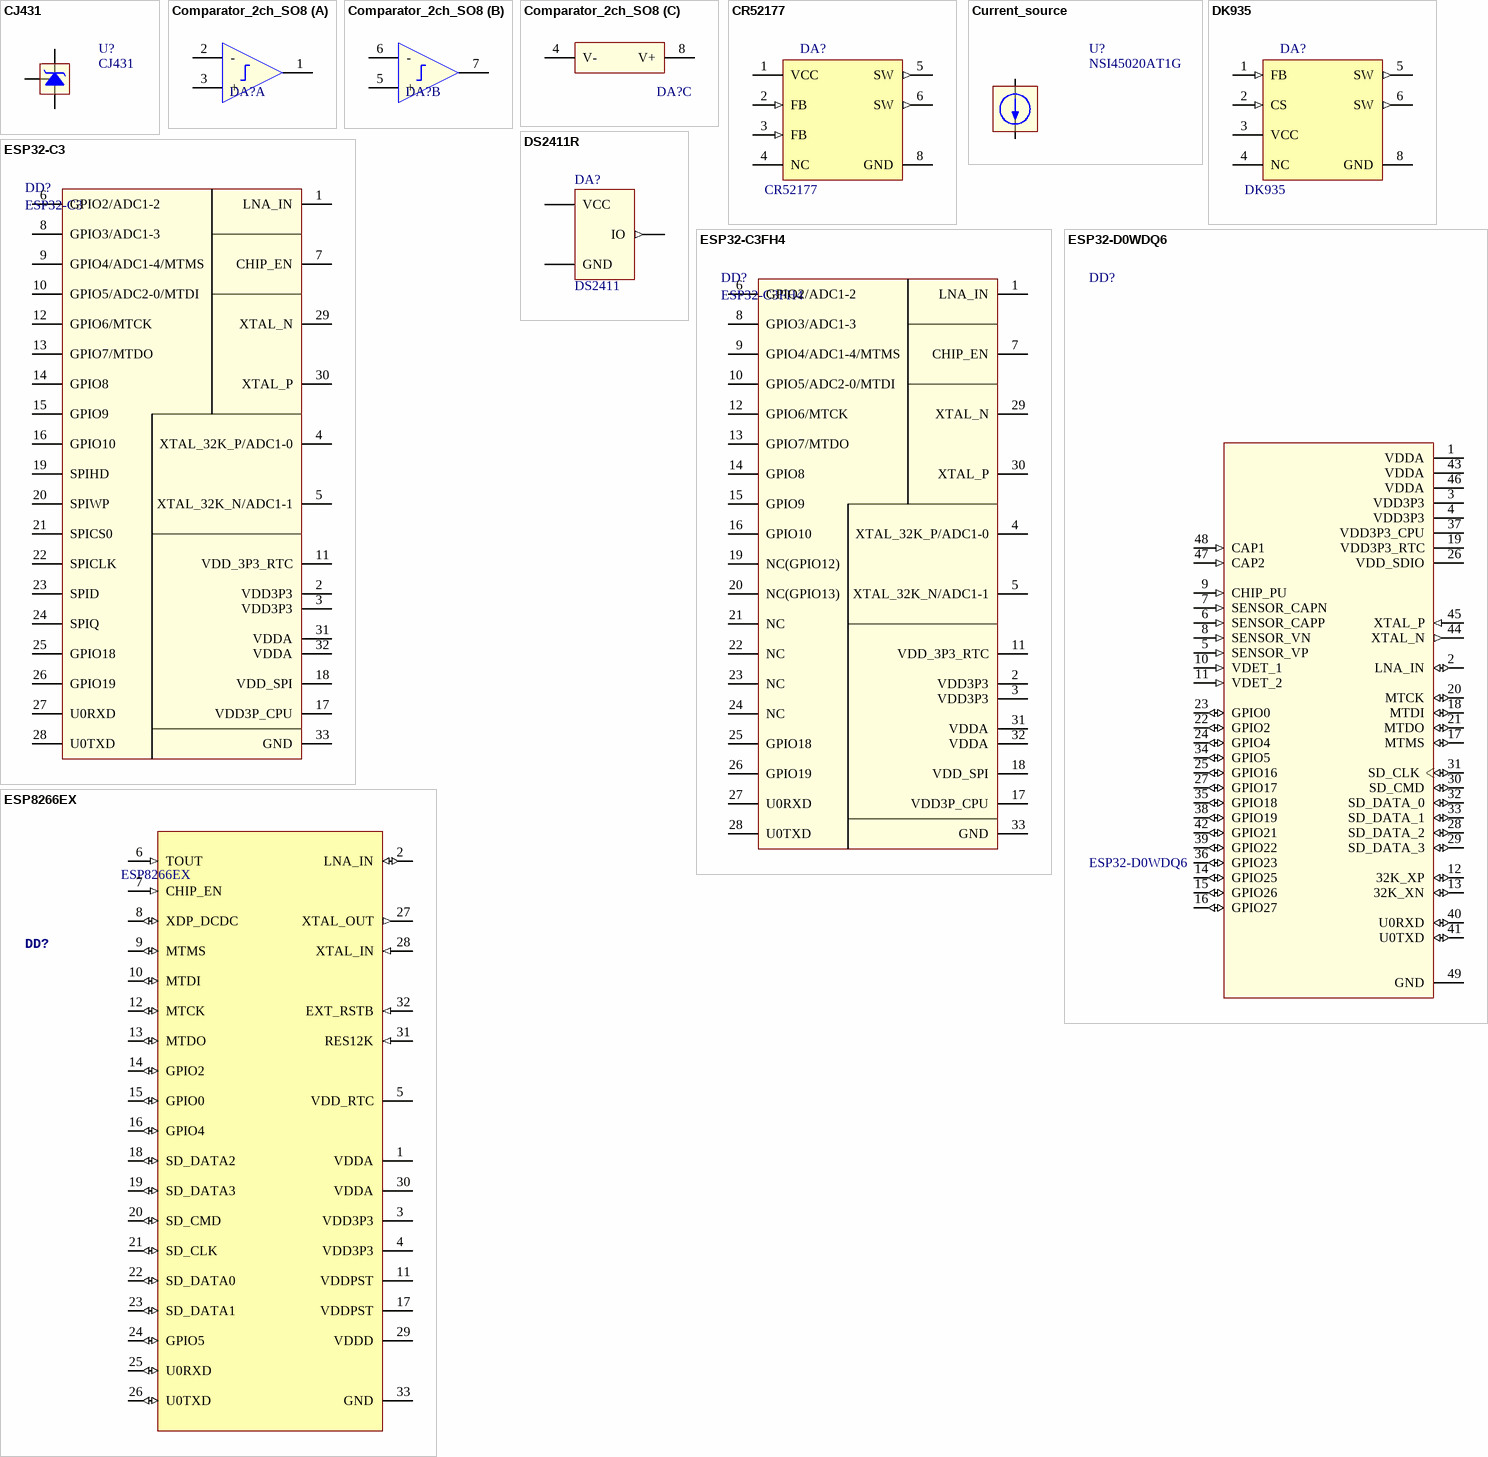
[diagram p4: symbols CJ431 to ESP8266EX]

## CJ431
designator U?
PROGRAMMABLE PRECISION REFERENCE, 2.495В, 0.5%, 100мА, (0 +70С), SOT23-3
footprint SOT-23-3 (SOT-23; 3 Leads; Body 3.0 x 2.6 mm, inc. leads (LxW max))
pins: X, Y, Z

## Comparator_2ch_SO8
designator DA?, comment LM393  (value not drawn)
Dual differential comparator
part A pins: 1 OUT, 2 -, 3 +
part B pins: 5 +, 6 -, 7 OUT
part C pins: 4 V-, 8 V+

## CR52177
designator DA?
High Precision CC/CV Primary-Side Converter, SOP-7
footprint SOP-7 (SOIC, 7-Leads, Body 4.9x3.9mm, Pitch 1.27mm)
pins: 1 VCC (power), 2 FB (in), 3 FB (in), 4 NC, 5 SW (out), 6 SW (out), 8 GND (power)

## Current_source
designator U?, comment NSI45020AT1G
Constant Current Regulator & LED Driver, 45 V, 20 mA  10%, 460 mW, SOD123
footprint SOD-123_NOT_DIODE
pins: +, -

## DK935
designator DA?
High Precision CC/CV Primary-Side Converter, SOP-7
footprint SOP-7 (SOIC, 7-Leads, Body 4.9x3.9mm, Pitch 1.27mm)
pins: 1 FB (in), 2 CS (in), 3 VCC (power), 4 NC, 5 SW (out), 6 SW (out), 8 GND (power)

## DS2411R
designator DA?, comment DS2411
Silicon Serial Number with VCC Input, SOT-23-3
pins: X IO (out) "CMOS output pin", Y GND (power) "Ground", Z VCC (power) "Output type option pin,  1=>Toggle mode; 0=>Direct mode"

## ESP32-C3
designator DD?
Ultra­Low­Power SoC with RISC­V Single­Core CPU; LCPN: C2838500
footprint QFN127P600-8N_(ESP32-C3)
pins: 1 LNA_IN, 2 VDD3P3, 3 VDD3P3, 4 XTAL_32K_P/ADC1-0, 5 XTAL_32K_N/ADC1-1, 6 GPIO2/ADC1-2, 7 CHIP_EN, 8 GPIO3/ADC1-3, 9 GPIO4/ADC1-4/MTMS, 10 GPIO5/ADC2-0/MTDI, 11 VDD_3P3_RTC, 12 GPIO6/MTCK, 13 GPIO7/MTDO, 14 GPIO8, 15 GPIO9, 16 GPIO10, 17 VDD3P_CPU, 18 VDD_SPI, 19 SPIHD, 20 SPIWP, 21 SPICS0, 22 SPICLK, 23 SPID, 24 SPIQ, 25 GPIO18, 26 GPIO19, 27 U0RXD, 28 U0TXD, 29 XTAL_N, 30 XTAL_P, 31 VDDA, 32 VDDA, 33 GND

## ESP32-C3FH4
designator DD?
Ultra­Low­Power SoC with RISC­V Single­Core CPU, 4Mb Built-in Flash; LCPN: C2838500
pins: 1 LNA_IN, 2 VDD3P3, 3 VDD3P3, 4 XTAL_32K_P/ADC1-0, 5 XTAL_32K_N/ADC1-1, 6 GPIO2/ADC1-2, 7 CHIP_EN, 8 GPIO3/ADC1-3, 9 GPIO4/ADC1-4/MTMS, 10 GPIO5/ADC2-0/MTDI, 11 VDD_3P3_RTC, 12 GPIO6/MTCK, 13 GPIO7/MTDO, 14 GPIO8, 15 GPIO9, 16 GPIO10, 17 VDD3P_CPU, 18 VDD_SPI, 19 NC(GPIO12), 20 NC(GPIO13), 21 NC, 22 NC, 23 NC, 24 NC, 25 GPIO18, 26 GPIO19, 27 U0RXD, 28 U0TXD, 29 XTAL_N, 30 XTAL_P, 31 VDDA, 32 VDDA, 33 GND

## ESP32-D0WDQ6
designator DD?
SoC; 2, 412GГ·2, 484GHz; -98dBm; 2.2Г·3.6VDC; SMD; QFN48; 19.5dBm; 16MB; MF: Espressif Systems; Package: VFQFN-48 Espressif Systems; SnapEDA_Link: https://www.snapeda.com/parts/ESP32-D0WDQ6/Espressif%20Systems/view-part/?ref=snap; MP: ESP32-D0WDQ6; Digi-Key_Part_Number: 1904-1004-1-ND; Digi-Key_Purchase_URL: https://www.digikey.ru/product-detail/en/espressif-systems/ESP32-D0WDQ6/1904-1004-1-ND/8028411?utm_source=snapeda&utm_medium=aggregator&utm_campaign=symbol; Value: *
footprint *QFN35P500X500X90-49N
footprint *QFN35P500X500X90-49N
pins: 1 VDDA (power), 2 LNA_IN (io), 3 VDD3P3 (power), 4 VDD3P3 (power), 5 SENSOR_VP (in), 6 SENSOR_CAPP (in), 7 SENSOR_CAPN (in), 8 SENSOR_VN (in), 9 CHIP_PU (in), 10 VDET_1 (in), 11 VDET_2 (in), 12 32K_XP (io), 13 32K_XN (io), 14 GPIO25 (io), 15 GPIO26 (io), 16 GPIO27 (io), 17 MTMS (io), 18 MTDI (io), 19 VDD3P3_RTC (power), 20 MTCK (io), 21 MTDO (io), 22 GPIO2 (io), 23 GPIO0 (io), 24 GPIO4 (io), 25 GPIO16 (io), 26 VDD_SDIO (power), 27 GPIO17 (io), 28 SD_DATA_2 (io), 29 SD_DATA_3 (io), 30 SD_CMD (io), 31 SD_CLK (io), 32 SD_DATA_0 (io), 33 SD_DATA_1 (io), 34 GPIO5 (io), 35 GPIO18 (io), 36 GPIO23 (io), 37 VDD3P3_CPU (power), 38 GPIO19 (io), 39 GPIO22 (io), 40 U0RXD (io), 41 U0TXD (io), 42 GPIO21 (io), 43 VDDA (power), 44 XTAL_N (out), 45 XTAL_P (in), 46 VDDA (power), 47 CAP2 (in), 48 CAP1 (in), 49 GND (power)

## ESP8266EX
designator DD?
Wi-Fi SoC (Espressif)
footprint QFN32 (QFN, 32-Leads, Body 5.00x5.00mm, Pitch 0.50mm, Thermal Pad 3.60x3.60mm, IPC Medium Density (Vanchik for ESP8266EX))
pins: 1 VDDA (power), 2 LNA_IN (io), 3 VDD3P3 (power), 4 VDD3P3 (power), 5 VDD_RTC (power), 6 TOUT (in), 7 CHIP_EN (in), 8 XDP_DCDC (io), 9 MTMS (io), 10 MTDI (io), 11 VDDPST (power), 12 MTCK (io), 13 MTDO (io), 14 GPIO2 (io), 15 GPIO0 (io), 16 GPIO4 (io), 17 VDDPST (power), 18 SD_DATA2 (io), 19 SD_DATA3 (io), 20 SD_CMD (io), 21 SD_CLK (io), 22 SD_DATA0 (io), 23 SD_DATA1 (io), 24 GPIO5 (io), 25 U0RXD (io), 26 U0TXD (io), 27 XTAL_OUT (out), 28 XTAL_IN (in), 29 VDDD (power), 30 VDDA (power), 31 RES12K (in), 32 EXT_RSTB (in), 33 GND (power)

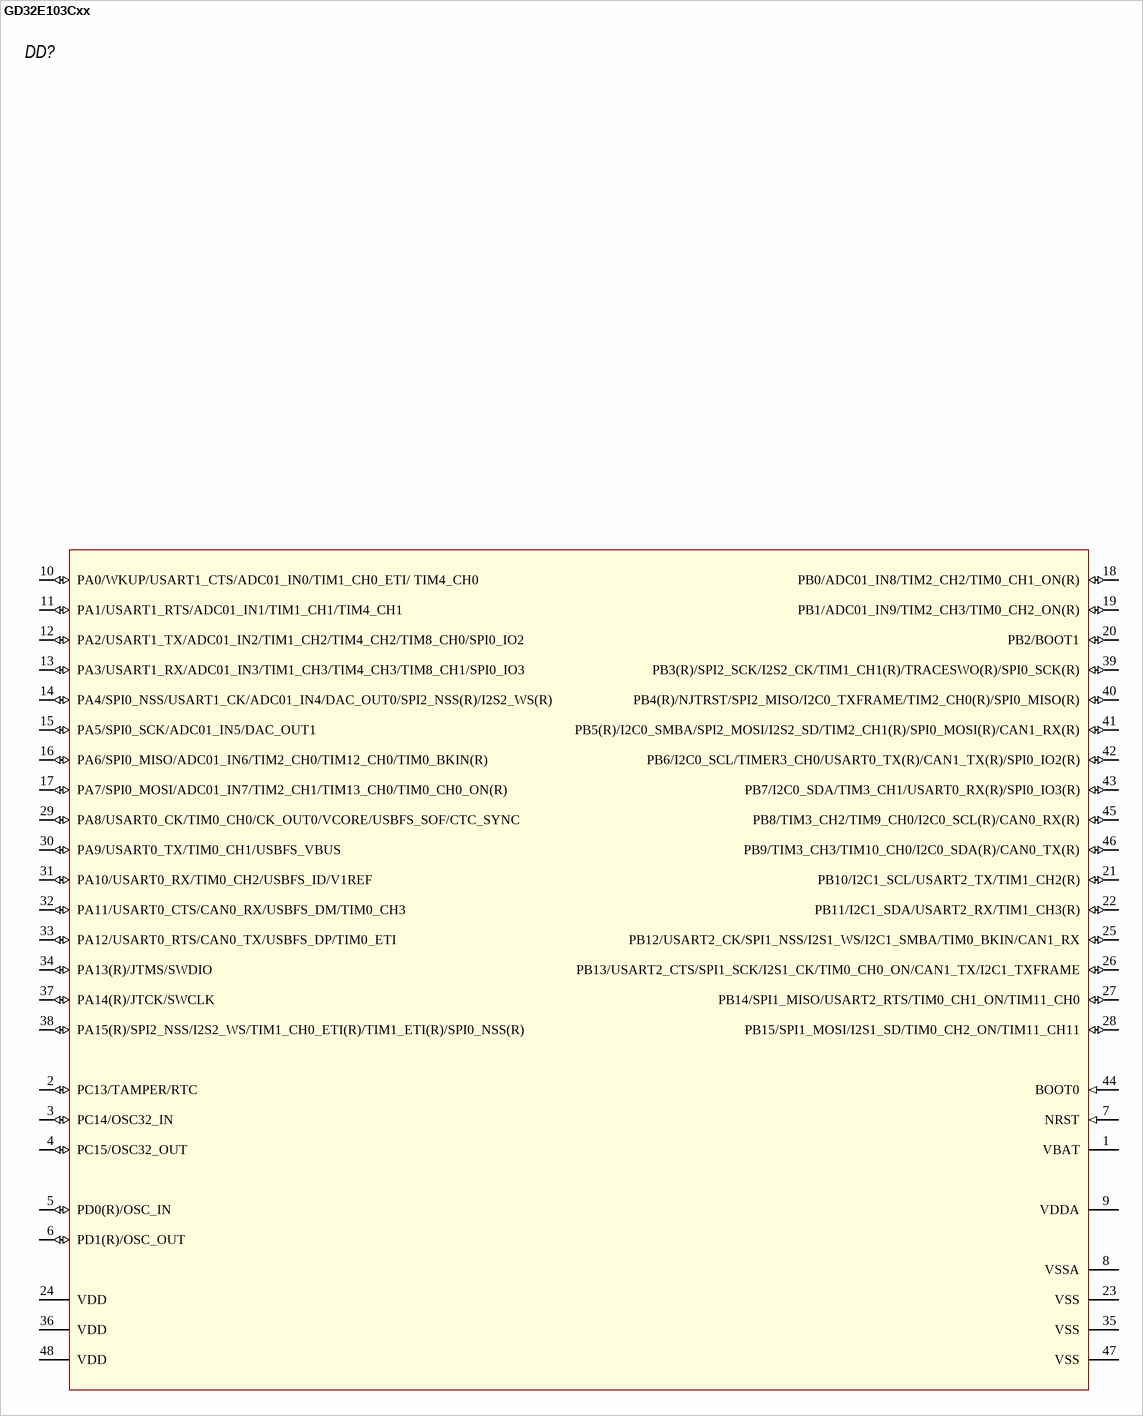
[diagram p5: symbol GD32E103Cxx]

## GD32E103Cxx
designator DD?  (value not drawn)
IC, MCU, LQFP-48, 32-bit ARM Cortex-M3; Manufacturer: ST; Name: STM32F101RCT6; Group: Микросхемы; Value: Микроконтроллер; Supplier: ООО"Торгэлектроника"
footprint LQFP48
pins: 1 VBAT (power) "Analog power supply", 2 PC13/TAMPER/RTC (io) "WKUP2,  RTC_TAMP1,  RTC_TS,  RTC_OUT", 3 PC14/OSC32_IN (io) "OSC32_IN", 4 PC15/OSC32_OUT (io) "OSC32_OU", 5 PD0(R)/OSC_IN (io) "I2C1_SDA, OSC_IN", 6 PD1(R)/OSC_OUT (io) "I2C1_SCL, OSC_OUT", 7 NRST (in) "Device reset input / internal reset output (active low)", 8 VSSA (power) "Analog ground", 9 VDDA (power) "Digital power supply", 10 PA0/WKUP/USART1_CTS/ADC01_IN0/TIM1_CH0_ETI/ TIM4_CH0 (io), 11 PA1/USART1_RTS/ADC01_IN1/TIM1_CH1/TIM4_CH1 (io), 12 PA2/USART1_TX/ADC01_IN2/TIM1_CH2/TIM4_CH2/TIM8_CH0/SPI0_IO2 (io), 13 PA3/USART1_RX/ADC01_IN3/TIM1_CH3/TIM4_CH3/TIM8_CH1/SPI0_IO3 (io), 14 PA4/SPI0_NSS/USART1_CK/ADC01_IN4/DAC_OUT0/SPI2_NSS(R)/I2S2_WS(R) (io), 15 PA5/SPI0_SCK/ADC01_IN5/DAC_OUT1 (io), 16 PA6/SPI0_MISO/ADC01_IN6/TIM2_CH0/TIM12_CH0/TIM0_BKIN(R) (io), 17 PA7/SPI0_MOSI/ADC01_IN7/TIM2_CH1/TIM13_CH0/TIM0_CH0_ON(R) (io), 18 PB0/ADC01_IN8/TIM2_CH2/TIM0_CH1_ON(R) (io), 19 PB1/ADC01_IN9/TIM2_CH3/TIM0_CH2_ON(R) (io), 20 PB2/BOOT1 (io) "PB2", 21 PB10/I2C1_SCL/USART2_TX/TIM1_CH2(R) (io), 22 PB11/I2C1_SDA/USART2_RX/TIM1_CH3(R) (io), 23 VSS (power) "Graound", 24 VDD (power) "Digital power supply", 25 PB12/USART2_CK/SPI1_NSS/I2S1_WS/I2C1_SMBA/TIM0_BKIN/CAN1_RX (io), 26 PB13/USART2_CTS/SPI1_SCK/I2S1_CK/TIM0_CH0_ON/CAN1_TX/I2C1_TXFRAME (io), 27 PB14/SPI1_MISO/USART2_RTS/TIM0_CH1_ON/TIM11_CH0 (io), 28 PB15/SPI1_MOSI/I2S1_SD/TIM0_CH2_ON/TIM11_CH11 (io), 29 PA8/USART0_CK/TIM0_CH0/CK_OUT0/VCORE/USBFS_SOF/CTC_SYNC (io), 30 PA9/USART0_TX/TIM0_CH1/USBFS_VBUS (io), 31 PA10/USART0_RX/TIM0_CH2/USBFS_ID/V1REF (io), 32 PA11/USART0_CTS/CAN0_RX/USBFS_DM/TIM0_CH3 (io), 33 PA12/USART0_RTS/CAN0_TX/USBFS_DP/TIM0_ETI (io), 34 PA13(R)/JTMS/SWDIO (io), 35 VSS (power) "Ground", 36 VDD (power) "Digital power supply", 37 PA14(R)/JTCK/SWCLK (io), 38 PA15(R)/SPI2_NSS/I2S2_WS/TIM1_CH0_ETI(R)/TIM1_ETI(R)/SPI0_NSS(R) (io), 39 PB3(R)/SPI2_SCK/I2S2_CK/TIM1_CH1(R)/TRACESWO(R)/SPI0_SCK(R) (io), 40 PB4(R)/NJTRST/SPI2_MISO/I2C0_TXFRAME/TIM2_CH0(R)/SPI0_MISO(R) (io), 41 PB5(R)/I2C0_SMBA/SPI2_MOSI/I2S2_SD/TIM2_CH1(R)/SPI0_MOSI(R)/CAN1_RX(R) (io), 42 PB6/I2C0_SCL/TIMER3_CH0/USART0_TX(R)/CAN1_TX(R)/SPI0_IO2(R) (io), 43 PB7/I2C0_SDA/TIM3_CH1/USART0_RX(R)/SPI0_IO3(R) (io), 44 BOOT0 (in) "Boot memory selection", 45 PB8/TIM3_CH2/TIM9_CH0/I2C0_SCL(R)/CAN0_RX(R) (io), 46 PB9/TIM3_CH3/TIM10_CH0/I2C0_SDA(R)/CAN0_TX(R) (io), 47 VSS (power) "Ground", 48 VDD (power) "Digital power supply"

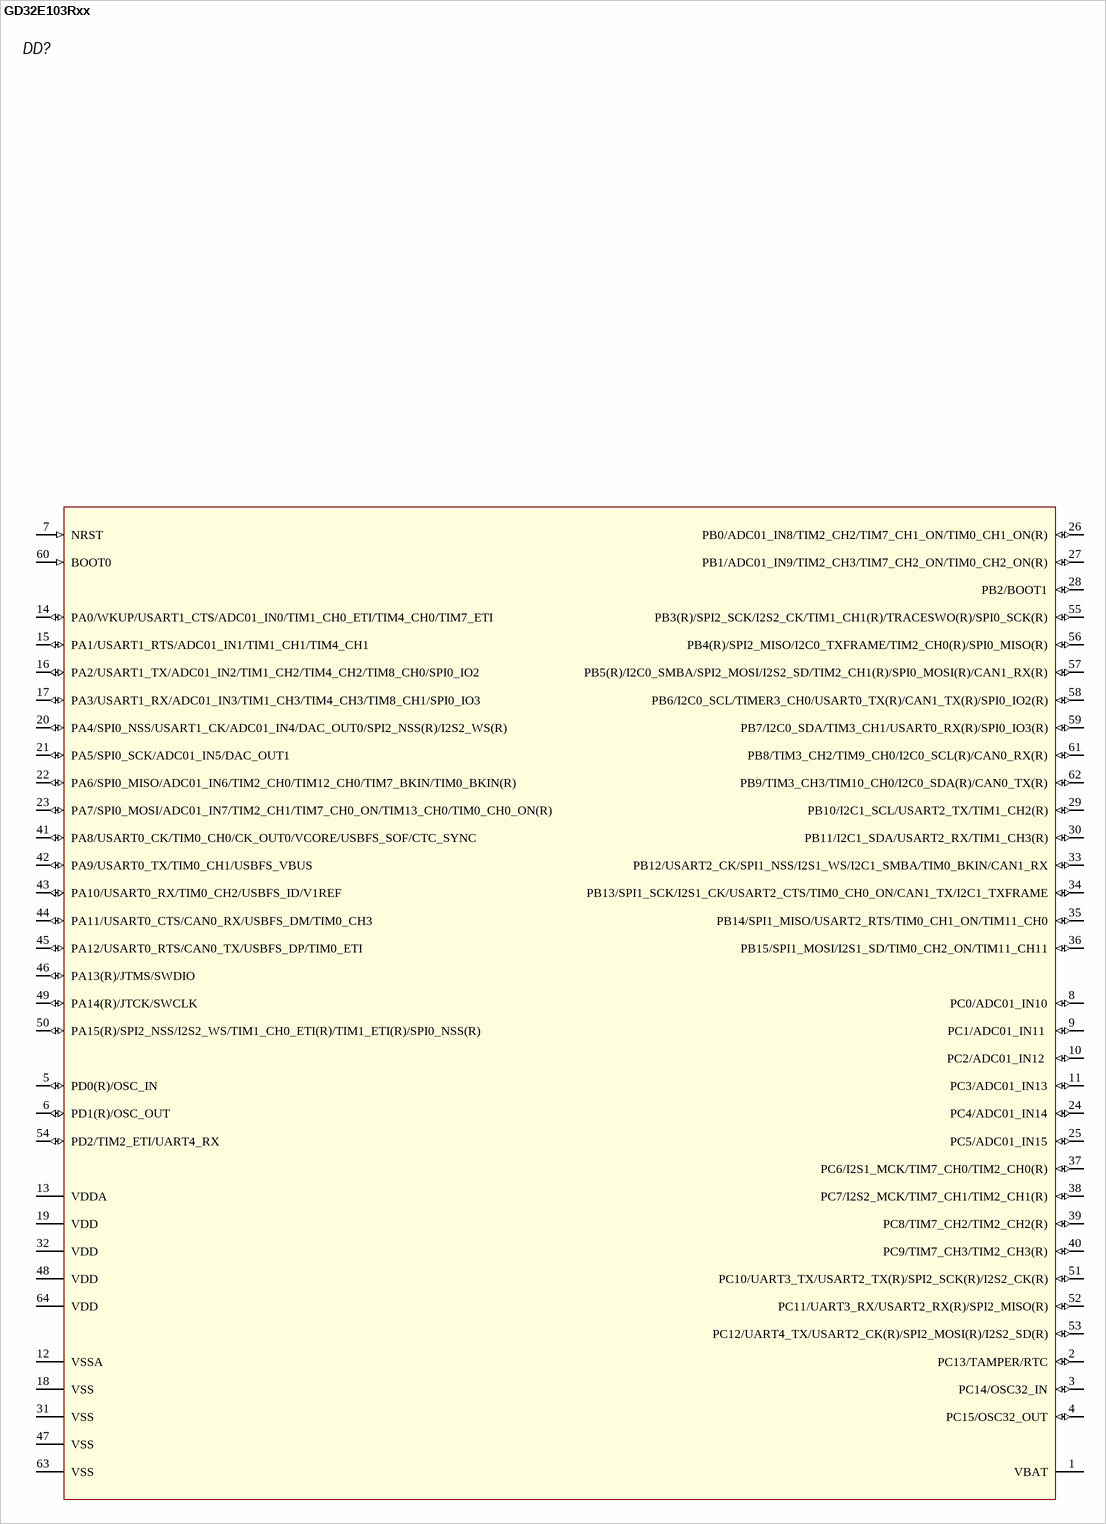
[diagram p6: symbol GD32E103Rxx]

## GD32E103Rxx
designator DD?  (value not drawn)
IC, MCU, LQFP-64, 32-bit ARM Cortex-M3; Manufacturer: ST; Name: STM32F101RCT6; Group: Микросхемы; Value: Микроконтроллер; Supplier: ООО"Торгэлектроника"
footprint LQFP64
pins: 1 VBAT (power) "Analog power supply", 2 PC13/TAMPER/RTC (io) "WKUP2,  RTC_TAMP1,  RTC_TS,  RTC_OUT", 3 PC14/OSC32_IN (io) "OSC32_IN", 4 PC15/OSC32_OUT (io) "OSC32_OU", 5 PD0(R)/OSC_IN (io) "I2C1_SDA, OSC_IN", 6 PD1(R)/OSC_OUT (io) "I2C1_SCL, OSC_OUT", 7 NRST (in) "Device reset input / internal reset output (active low)", 8 PC0/ADC01_IN10 (io), 9 PC1/ADC01_IN11  (io), 10 PC2/ADC01_IN12  (io), 11 PC3/ADC01_IN13 (io), 12 VSSA (power) "Analog ground", 13 VDDA (power) "Digital power supply", 14 PA0/WKUP/USART1_CTS/ADC01_IN0/TIM1_CH0_ETI/TIM4_CH0/TIM7_ETI (io), 15 PA1/USART1_RTS/ADC01_IN1/TIM1_CH1/TIM4_CH1 (io), 16 PA2/USART1_TX/ADC01_IN2/TIM1_CH2/TIM4_CH2/TIM8_CH0/SPI0_IO2 (io), 17 PA3/USART1_RX/ADC01_IN3/TIM1_CH3/TIM4_CH3/TIM8_CH1/SPI0_IO3 (io), 18 VSS (power) "Graound", 19 VDD (power) "Digital power supply", 20 PA4/SPI0_NSS/USART1_CK/ADC01_IN4/DAC_OUT0/SPI2_NSS(R)/I2S2_WS(R) (io), 21 PA5/SPI0_SCK/ADC01_IN5/DAC_OUT1 (io), 22 PA6/SPI0_MISO/ADC01_IN6/TIM2_CH0/TIM12_CH0/TIM7_BKIN/TIM0_BKIN(R) (io), 23 PA7/SPI0_MOSI/ADC01_IN7/TIM2_CH1/TIM7_CH0_ON/TIM13_CH0/TIM0_CH0_ON(R) (io), 24 PC4/ADC01_IN14 (io), 25 PC5/ADC01_IN15 (io), 26 PB0/ADC01_IN8/TIM2_CH2/TIM7_CH1_ON/TIM0_CH1_ON(R) (io), 27 PB1/ADC01_IN9/TIM2_CH3/TIM7_CH2_ON/TIM0_CH2_ON(R) (io), 28 PB2/BOOT1 (io) "PB2", 29 PB10/I2C1_SCL/USART2_TX/TIM1_CH2(R) (io), 30 PB11/I2C1_SDA/USART2_RX/TIM1_CH3(R) (io), 31 VSS (power) "Graound", 32 VDD (power) "Digital power supply", 33 PB12/USART2_CK/SPI1_NSS/I2S1_WS/I2C1_SMBA/TIM0_BKIN/CAN1_RX (io), 34 PB13/SPI1_SCK/I2S1_CK/USART2_CTS/TIM0_CH0_ON/CAN1_TX/I2C1_TXFRAME (io), 35 PB14/SPI1_MISO/USART2_RTS/TIM0_CH1_ON/TIM11_CH0 (io), 36 PB15/SPI1_MOSI/I2S1_SD/TIM0_CH2_ON/TIM11_CH11 (io), 37 PC6/I2S1_MCK/TIM7_CH0/TIM2_CH0(R) (io), 38 PC7/I2S2_MCK/TIM7_CH1/TIM2_CH1(R) (io), 39 PC8/TIM7_CH2/TIM2_CH2(R) (io), 40 PC9/TIM7_CH3/TIM2_CH3(R) (io), 41 PA8/USART0_CK/TIM0_CH0/CK_OUT0/VCORE/USBFS_SOF/CTC_SYNC (io), 42 PA9/USART0_TX/TIM0_CH1/USBFS_VBUS (io), 43 PA10/USART0_RX/TIM0_CH2/USBFS_ID/V1REF (io), 44 PA11/USART0_CTS/CAN0_RX/USBFS_DM/TIM0_CH3 (io), 45 PA12/USART0_RTS/CAN0_TX/USBFS_DP/TIM0_ETI (io), 46 PA13(R)/JTMS/SWDIO (io), 47 VSS (power) "Ground", 48 VDD (power) "Digital power supply", 49 PA14(R)/JTCK/SWCLK (io), 50 PA15(R)/SPI2_NSS/I2S2_WS/TIM1_CH0_ETI(R)/TIM1_ETI(R)/SPI0_NSS(R) (io), 51 PC10/UART3_TX/USART2_TX(R)/SPI2_SCK(R)/I2S2_CK(R) (io), 52 PC11/UART3_RX/USART2_RX(R)/SPI2_MISO(R) (io), 53 PC12/UART4_TX/USART2_CK(R)/SPI2_MOSI(R)/I2S2_SD(R) (io), 54 PD2/TIM2_ETI/UART4_RX (io), 55 PB3(R)/SPI2_SCK/I2S2_CK/TIM1_CH1(R)/TRACESWO(R)/SPI0_SCK(R) (io), 56 PB4(R)/SPI2_MISO/I2C0_TXFRAME/TIM2_CH0(R)/SPI0_MISO(R) (io), 57 PB5(R)/I2C0_SMBA/SPI2_MOSI/I2S2_SD/TIM2_CH1(R)/SPI0_MOSI(R)/CAN1_RX(R) (io), 58 PB6/I2C0_SCL/TIMER3_CH0/USART0_TX(R)/CAN1_TX(R)/SPI0_IO2(R) (io), 59 PB7/I2C0_SDA/TIM3_CH1/USART0_RX(R)/SPI0_IO3(R) (io), 60 BOOT0 (in) "Boot memory selection", 61 PB8/TIM3_CH2/TIM9_CH0/I2C0_SCL(R)/CAN0_RX(R) (io), 62 PB9/TIM3_CH3/TIM10_CH0/I2C0_SDA(R)/CAN0_TX(R) (io), 63 VSS (power) "Ground", 64 VDD (power) "Digital power supply"

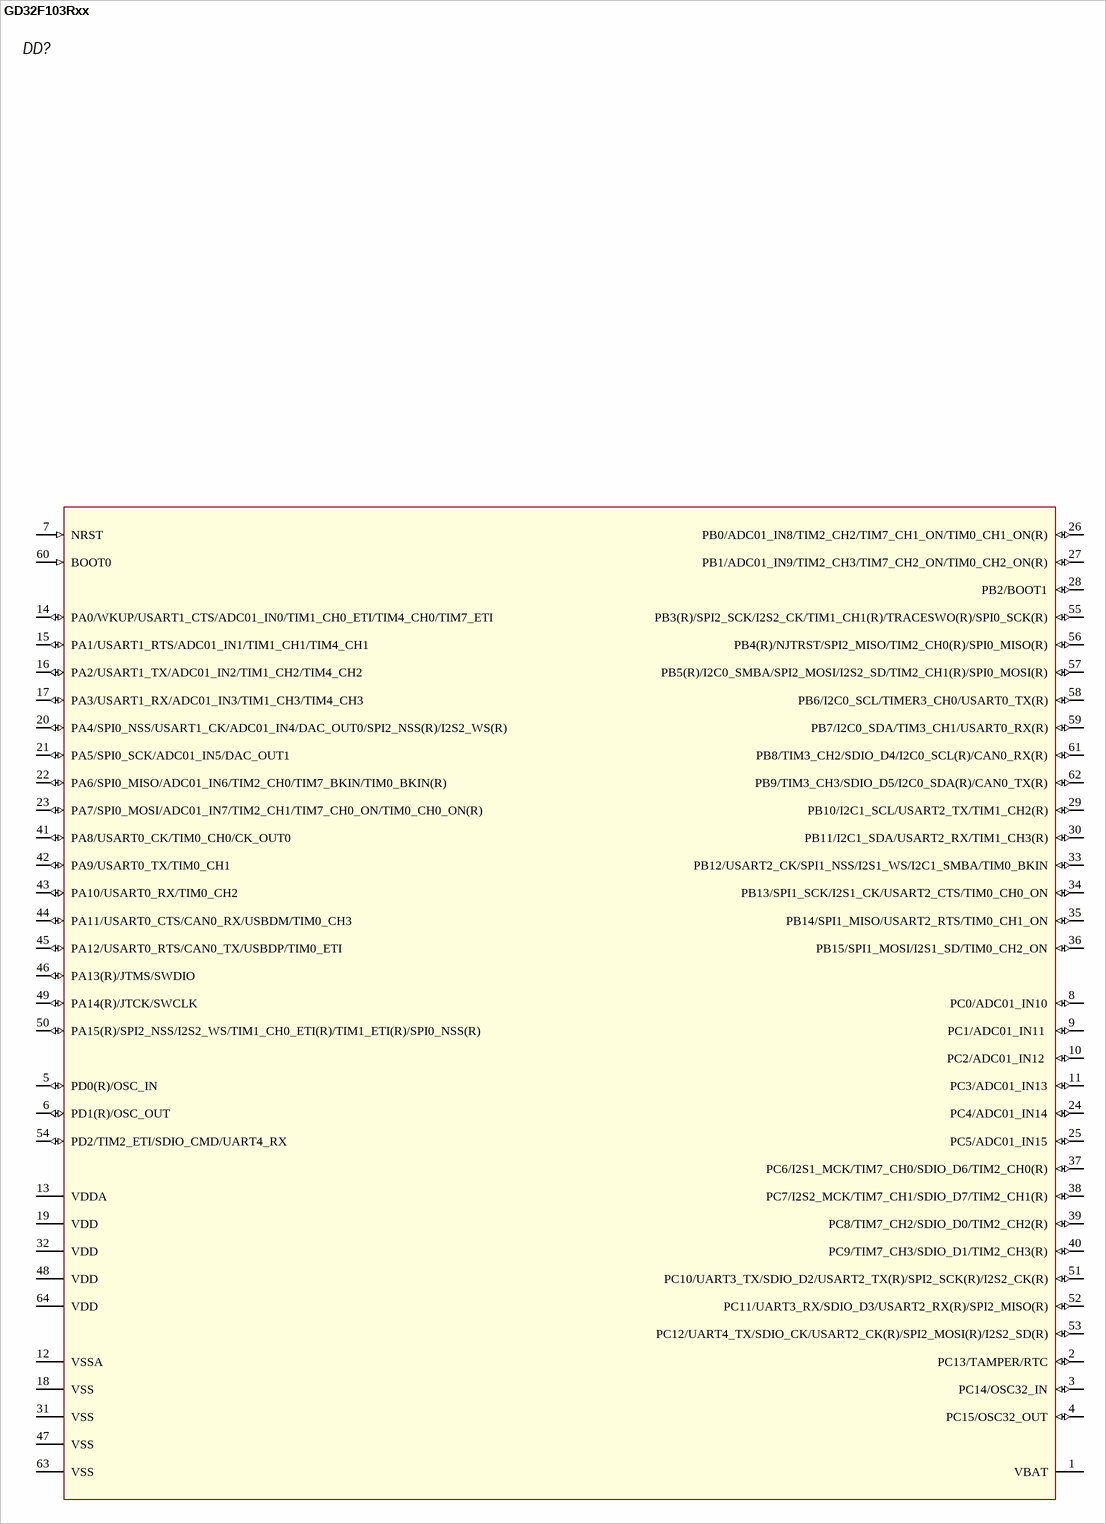
[diagram p7: symbol GD32F103Rxx]

## GD32F103Rxx
designator DD?  (value not drawn)
IC, MCU, LQFP-64, 32-bit ARM Cortex-M3; Manufacturer: ST; Name: STM32F101RCT6; Group: Микросхемы; Value: Микроконтроллер; Supplier: ООО"Торгэлектроника"
footprint LQFP64
pins: 1 VBAT (power) "Analog power supply", 2 PC13/TAMPER/RTC (io) "WKUP2,  RTC_TAMP1,  RTC_TS,  RTC_OUT", 3 PC14/OSC32_IN (io) "OSC32_IN", 4 PC15/OSC32_OUT (io) "OSC32_OU", 5 PD0(R)/OSC_IN (io) "I2C1_SDA, OSC_IN", 6 PD1(R)/OSC_OUT (io) "I2C1_SCL, OSC_OUT", 7 NRST (in) "Device reset input / internal reset output (active low)", 8 PC0/ADC01_IN10 (io), 9 PC1/ADC01_IN11  (io), 10 PC2/ADC01_IN12  (io), 11 PC3/ADC01_IN13 (io), 12 VSSA (power) "Analog ground", 13 VDDA (power) "Digital power supply", 14 PA0/WKUP/USART1_CTS/ADC01_IN0/TIM1_CH0_ETI/TIM4_CH0/TIM7_ETI (io), 15 PA1/USART1_RTS/ADC01_IN1/TIM1_CH1/TIM4_CH1 (io), 16 PA2/USART1_TX/ADC01_IN2/TIM1_CH2/TIM4_CH2 (io), 17 PA3/USART1_RX/ADC01_IN3/TIM1_CH3/TIM4_CH3 (io), 18 VSS (power) "Graound", 19 VDD (power) "Digital power supply", 20 PA4/SPI0_NSS/USART1_CK/ADC01_IN4/DAC_OUT0/SPI2_NSS(R)/I2S2_WS(R) (io), 21 PA5/SPI0_SCK/ADC01_IN5/DAC_OUT1 (io), 22 PA6/SPI0_MISO/ADC01_IN6/TIM2_CH0/TIM7_BKIN/TIM0_BKIN(R) (io), 23 PA7/SPI0_MOSI/ADC01_IN7/TIM2_CH1/TIM7_CH0_ON/TIM0_CH0_ON(R) (io), 24 PC4/ADC01_IN14 (io), 25 PC5/ADC01_IN15 (io), 26 PB0/ADC01_IN8/TIM2_CH2/TIM7_CH1_ON/TIM0_CH1_ON(R) (io), 27 PB1/ADC01_IN9/TIM2_CH3/TIM7_CH2_ON/TIM0_CH2_ON(R) (io), 28 PB2/BOOT1 (io) "PB2", 29 PB10/I2C1_SCL/USART2_TX/TIM1_CH2(R) (io), 30 PB11/I2C1_SDA/USART2_RX/TIM1_CH3(R) (io), 31 VSS (power) "Graound", 32 VDD (power) "Digital power supply", 33 PB12/USART2_CK/SPI1_NSS/I2S1_WS/I2C1_SMBA/TIM0_BKIN (io), 34 PB13/SPI1_SCK/I2S1_CK/USART2_CTS/TIM0_CH0_ON (io), 35 PB14/SPI1_MISO/USART2_RTS/TIM0_CH1_ON (io), 36 PB15/SPI1_MOSI/I2S1_SD/TIM0_CH2_ON (io), 37 PC6/I2S1_MCK/TIM7_CH0/SDIO_D6/TIM2_CH0(R) (io), 38 PC7/I2S2_MCK/TIM7_CH1/SDIO_D7/TIM2_CH1(R) (io), 39 PC8/TIM7_CH2/SDIO_D0/TIM2_CH2(R) (io), 40 PC9/TIM7_CH3/SDIO_D1/TIM2_CH3(R) (io), 41 PA8/USART0_CK/TIM0_CH0/CK_OUT0 (io), 42 PA9/USART0_TX/TIM0_CH1 (io), 43 PA10/USART0_RX/TIM0_CH2 (io), 44 PA11/USART0_CTS/CAN0_RX/USBDM/TIM0_CH3 (io), 45 PA12/USART0_RTS/CAN0_TX/USBDP/TIM0_ETI (io), 46 PA13(R)/JTMS/SWDIO (io), 47 VSS (power) "Ground", 48 VDD (power) "Digital power supply", 49 PA14(R)/JTCK/SWCLK (io), 50 PA15(R)/SPI2_NSS/I2S2_WS/TIM1_CH0_ETI(R)/TIM1_ETI(R)/SPI0_NSS(R) (io), 51 PC10/UART3_TX/SDIO_D2/USART2_TX(R)/SPI2_SCK(R)/I2S2_CK(R) (io), 52 PC11/UART3_RX/SDIO_D3/USART2_RX(R)/SPI2_MISO(R) (io), 53 PC12/UART4_TX/SDIO_CK/USART2_CK(R)/SPI2_MOSI(R)/I2S2_SD(R) (io), 54 PD2/TIM2_ETI/SDIO_CMD/UART4_RX (io), 55 PB3(R)/SPI2_SCK/I2S2_CK/TIM1_CH1(R)/TRACESWO(R)/SPI0_SCK(R) (io), 56 PB4(R)/NJTRST/SPI2_MISO/TIM2_CH0(R)/SPI0_MISO(R) (io), 57 PB5(R)/I2C0_SMBA/SPI2_MOSI/I2S2_SD/TIM2_CH1(R)/SPI0_MOSI(R) (io), 58 PB6/I2C0_SCL/TIMER3_CH0/USART0_TX(R) (io), 59 PB7/I2C0_SDA/TIM3_CH1/USART0_RX(R) (io), 60 BOOT0 (in) "Boot memory selection", 61 PB8/TIM3_CH2/SDIO_D4/I2C0_SCL(R)/CAN0_RX(R) (io), 62 PB9/TIM3_CH3/SDIO_D5/I2C0_SDA(R)/CAN0_TX(R) (io), 63 VSS (power) "Ground", 64 VDD (power) "Digital power supply"

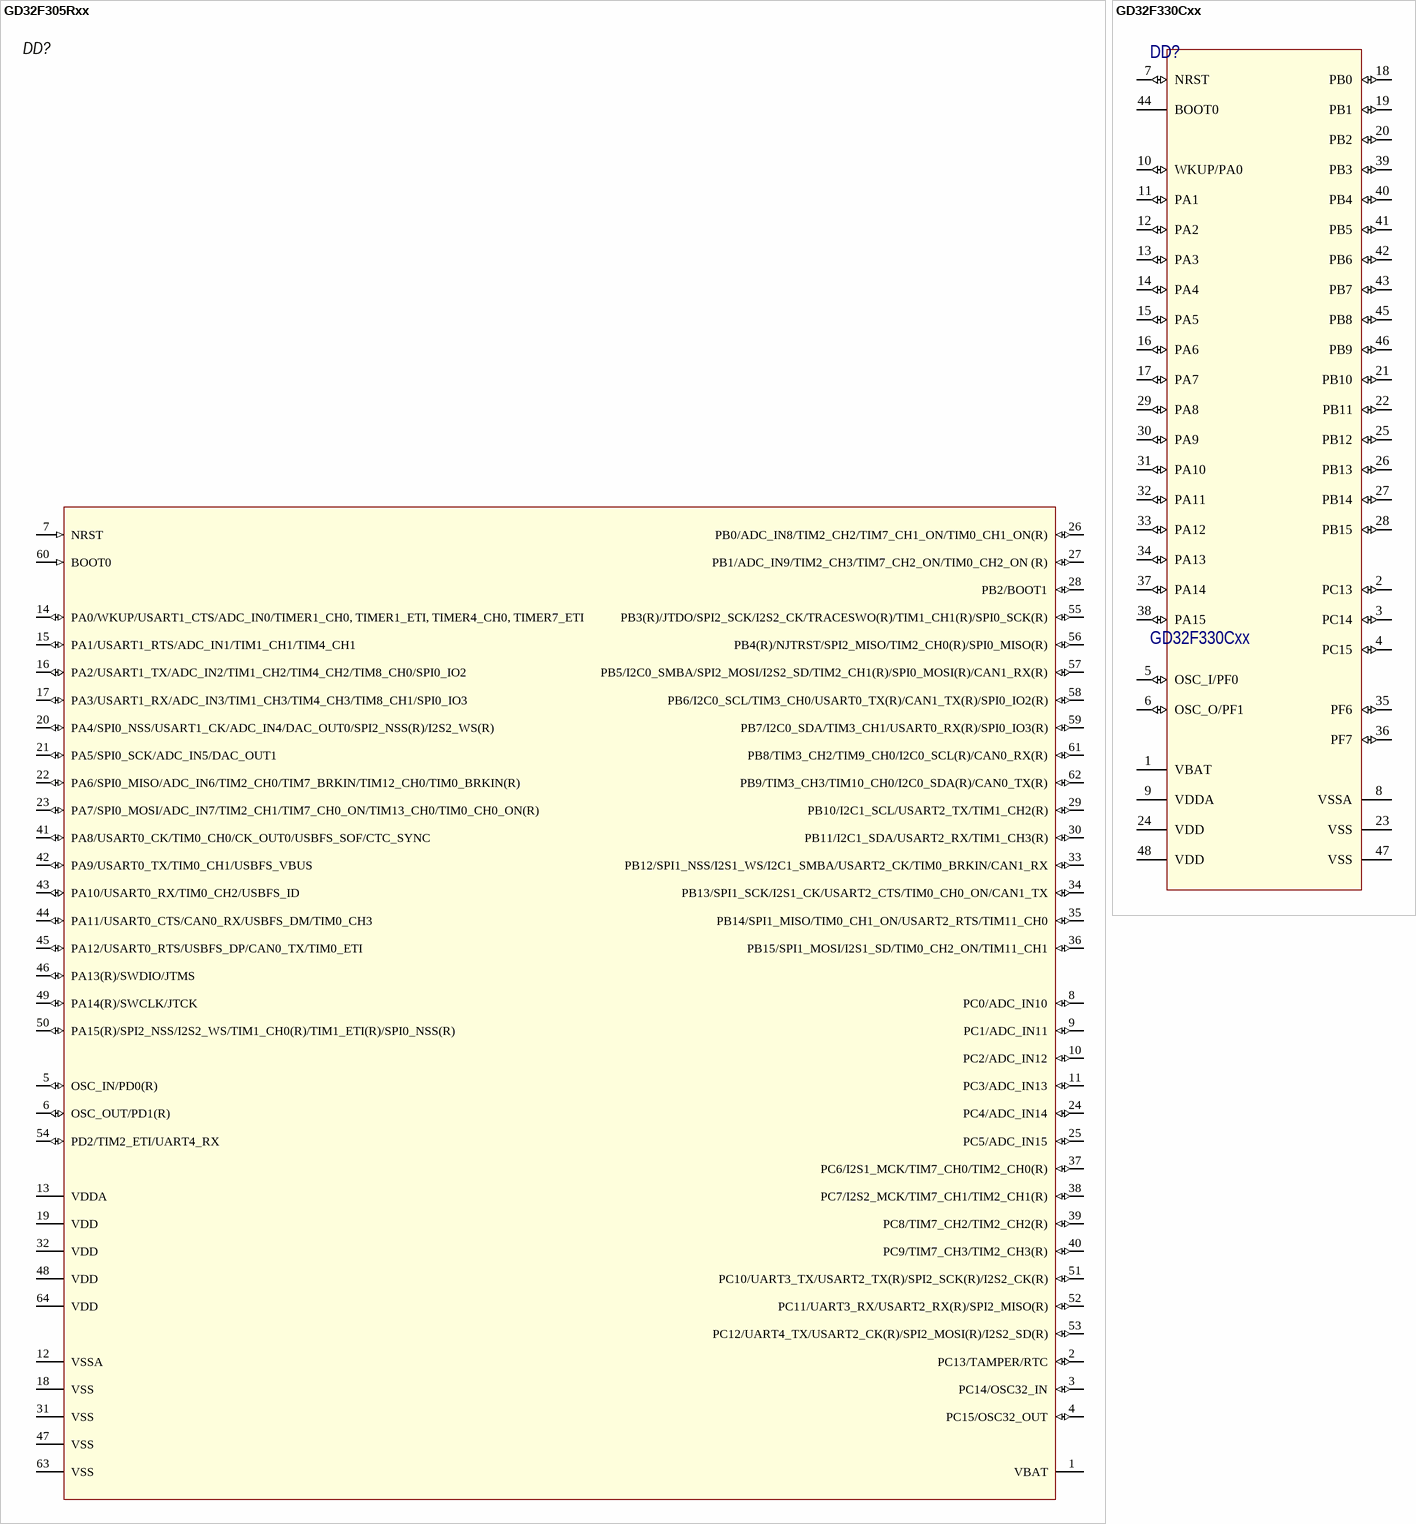
[diagram p8: symbols GD32F305Rxx to GD32F330Cxx]

## GD32F305Rxx
designator DD?  (value not drawn)
IC, MCU, LQFP-64, 32-bit ARM Cortex-M4; Manufacturer: ST; Name: STM32F101RCT6; Group: Микросхемы; Value: Микроконтроллер; Supplier: ООО"Торгэлектроника"
footprint LQFP64
pins: 1 VBAT (power), 2 PC13/TAMPER/RTC (io), 3 PC14/OSC32_IN (io), 4 PC15/OSC32_OUT (io), 5 OSC_IN/PD0(R) (io), 6 OSC_OUT/PD1(R) (io), 7 NRST (in), 8 PC0/ADC_IN10 (io), 9 PC1/ADC_IN11 (io), 10 PC2/ADC_IN12 (io), 11 PC3/ADC_IN13 (io), 12 VSSA (power), 13 VDDA (power), 14 PA0/WKUP/USART1_CTS/ADC_IN0/TIMER1_CH0, TIMER1_ETI, TIMER4_CH0, TIMER7_ETI (io), 15 PA1/USART1_RTS/ADC_IN1/TIM1_CH1/TIM4_CH1 (io), 16 PA2/USART1_TX/ADC_IN2/TIM1_CH2/TIM4_CH2/TIM8_CH0/SPI0_IO2 (io), 17 PA3/USART1_RX/ADC_IN3/TIM1_CH3/TIM4_CH3/TIM8_CH1/SPI0_IO3 (io), 18 VSS (power), 19 VDD (power), 20 PA4/SPI0_NSS/USART1_CK/ADC_IN4/DAC_OUT0/SPI2_NSS(R)/I2S2_WS(R) (io), 21 PA5/SPI0_SCK/ADC_IN5/DAC_OUT1 (io), 22 PA6/SPI0_MISO/ADC_IN6/TIM2_CH0/TIM7_BRKIN/TIM12_CH0/TIM0_BRKIN(R) (io), 23 PA7/SPI0_MOSI/ADC_IN7/TIM2_CH1/TIM7_CH0_ON/TIM13_CH0/TIM0_CH0_ON(R) (io), 24 PC4/ADC_IN14 (io), 25 PC5/ADC_IN15 (io), 26 PB0/ADC_IN8/TIM2_CH2/TIM7_CH1_ON/TIM0_CH1_ON(R) (io), 27 PB1/ADC_IN9/TIM2_CH3/TIM7_CH2_ON/TIM0_CH2_ON (R) (io), 28 PB2/BOOT1 (io), 29 PB10/I2C1_SCL/USART2_TX/TIM1_CH2(R) (io), 30 PB11/I2C1_SDA/USART2_RX/TIM1_CH3(R) (io), 31 VSS (power), 32 VDD (power), 33 PB12/SPI1_NSS/I2S1_WS/I2C1_SMBA/USART2_CK/TIM0_BRKIN/CAN1_RX (io), 34 PB13/SPI1_SCK/I2S1_CK/USART2_CTS/TIM0_CH0_ON/CAN1_TX (io), 35 PB14/SPI1_MISO/TIM0_CH1_ON/USART2_RTS/TIM11_CH0 (io), 36 PB15/SPI1_MOSI/I2S1_SD/TIM0_CH2_ON/TIM11_CH1 (io), 37 PC6/I2S1_MCK/TIM7_CH0/TIM2_CH0(R) (io), 38 PC7/I2S2_MCK/TIM7_CH1/TIM2_CH1(R) (io), 39 PC8/TIM7_CH2/TIM2_CH2(R) (io), 40 PC9/TIM7_CH3/TIM2_CH3(R) (io), 41 PA8/USART0_CK/TIM0_CH0/CK_OUT0/USBFS_SOF/CTC_SYNC (io), 42 PA9/USART0_TX/TIM0_CH1/USBFS_VBUS (io), 43 PA10/USART0_RX/TIM0_CH2/USBFS_ID (io), 44 PA11/USART0_CTS/CAN0_RX/USBFS_DM/TIM0_CH3 (io), 45 PA12/USART0_RTS/USBFS_DP/CAN0_TX/TIM0_ETI (io), 46 PA13(R)/SWDIO/JTMS (io), 47 VSS (power), 48 VDD (power), 49 PA14(R)/SWCLK/JTCK (io), 50 PA15(R)/SPI2_NSS/I2S2_WS/TIM1_CH0(R)/TIM1_ETI(R)/SPI0_NSS(R) (io), 51 PC10/UART3_TX/USART2_TX(R)/SPI2_SCK(R)/I2S2_CK(R) (io), 52 PC11/UART3_RX/USART2_RX(R)/SPI2_MISO(R) (io), 53 PC12/UART4_TX/USART2_CK(R)/SPI2_MOSI(R)/I2S2_SD(R) (io), 54 PD2/TIM2_ETI/UART4_RX (io), 55 PB3(R)/JTDO/SPI2_SCK/I2S2_CK/TRACESWO(R)/TIM1_CH1(R)/SPI0_SCK(R) (io), 56 PB4(R)/NJTRST/SPI2_MISO/TIM2_CH0(R)/SPI0_MISO(R) (io), 57 PB5/I2C0_SMBA/SPI2_MOSI/I2S2_SD/TIM2_CH1(R)/SPI0_MOSI(R)/CAN1_RX(R) (io), 58 PB6/I2C0_SCL/TIM3_CH0/USART0_TX(R)/CAN1_TX(R)/SPI0_IO2(R) (io), 59 PB7/I2C0_SDA/TIM3_CH1/USART0_RX(R)/SPI0_IO3(R) (io), 60 BOOT0 (in), 61 PB8/TIM3_CH2/TIM9_CH0/I2C0_SCL(R)/CAN0_RX(R) (io), 62 PB9/TIM3_CH3/TIM10_CH0/I2C0_SDA(R)/CAN0_TX(R) (io), 63 VSS (power), 64 VDD (power)

## GD32F330Cxx
designator DD?
IC, MCU, LQFP-48, 32-bit ARM Cortex-M4
footprint LQFP48
pins: 1 VBAT (power) "Digital power supply", 2 PC13 (io) "WKUP2,  RTC_TAMP1,  RTC_TS,  RTC_OUT", 3 PC14 (io) "OSC32_IN", 4 PC15 (io) "OSC32_OU", 5 OSC_I/PF0 (io) "I2C1_SDA, OSC_IN", 6 OSC_O/PF1 (io) "I2C1_SCL, OSC_OUT", 7 NRST (io) "Device reset input / internal reset output (active low)", 8 VSSA (power) "Analog ground", 9 VDDA (power) "Analog power supply", 10 WKUP/PA0 (io) "USART2_CTS,  USART4_TX  RTC_ TAMP2,  WKUP1, ADC_IN0,", 11 PA1 (io) "USART2_RTS,  TIM15_CH1N,  USART4_RX, EVENTOUT  ADC_IN1", 12 PA2 (io) "USART2_TX, TIM15_CH1 ADC_IN2, WKUP4", 13 PA3 (io) "USART2_RX, TIM15_CH2 ADC_IN3", 14 PA4 (io) "SPI1_NSS, TIM14_CH1,  USART2_CK,  USB_NOE(3)  ADC_IN4", 15 PA5 (io) "SPI1_SCK ADC_IN5", 16 PA6 (io) "SPI1_MISO, TIM3_CH1,  TIM1_BKIN,  TIM16_CH1, EVENTOUT,  USART3_CTS  ADC_IN6", 17 PA7 (io) "SPI1_MOSI, TIM3_CH2,  TIM14_CH1,  TIM1_CH1N, TIM17_CH1,  EVENTOUT  ADC_IN7", 18 PB0 (io) "TIM3_CH3, TIM1_CH2N,  EVENTOUT,  USART3_CK  ADC_IN8", 19 PB1 (io) "TIM3_CH4,  USART3_RTS,  TIM14_CH1, TIM1_CH3N  ADC_IN9", 20 PB2 (io), 21 PB10 (io) "SPI2_SCK, USART3_TX", 22 PB11 (io) "USART3_RX,  EVENTOUT, I2C2_SDA", 23 VSS (power) "Graound", 24 VDD (power) "Digital power supply", 25 PB12 (io) "TIM1_BKIN, TIM15_BKIN,  SPI2_NSS, EVENTOUT,  USART3_CK", 26 PB13 (io) "SPI2_SCK, I2C2_SCL,  TIM1_CH1N,  USART3_CTS", 27 PB14 (io) "SPI2_MISO, I2C2_SDA,  TIM1_CH2N, TIM15_CH1,  USART3_RTS", 28 PB15 (io) "SPI2_MOSI, TIM1_CH3N,  TIM15_CH1N,  TIM15_CH2  WKUP7,  RTC_REFIN", 29 PA8 (io) "USART1_CK, TIM1_CH1,  EVENTOUT, MCO", 30 PA9 (io) "USART1_TX, TIM1_CH2,  TIM15_BKIN,  I2C1_SCL", 31 PA10 (io) "USART1_RX, TIM1_CH3,  TIM17_BKIN,  I2C1_SDA", 32 PA11 (io) "USART1_CTS,  TIM1_CH4, EVENTOUT USB_DM", 33 PA12 (io) "USART1_RTS,  TIM1_ETR, EVENTOUT USB_DP", 34 PA13 (io) "IR_OUT, SWDIO,  USB_NOE", 35 PF6 (io) "I2C1_SDA, OSC_IN", 36 PF7 (io) "I2C1_SCL, OSC_OUT", 37 PA14 (io) "USART2_TX, SWCLK", 38 PA15 (io) "SPI1_NSS, USART2_RX,  USART4_RTS,  EVENTOUT", 39 PB3 (io) "SPI1_SCK, EVENTOUT", 40 PB4 (io) "SPI1_MISO, TIM17_BKIN,  TIM3_CH1, EVENTOUT", 41 PB5 (io) "SPI1_MOSI, I2C1_SMBA,  TIM16_BKIN,  TIM3_CH2  WKUP6", 42 PB6 (io) "I2C1_SCL, USART1_TX,  TIM16_CH1N", 43 PB7 (io) "I2C1_SDA, USART1_RX,  USART4_CTS,  TIM17_C", 44 BOOT0 "Boot memory selection", 45 PB8 (io) "I2C1_SCL, TIM16_CH1", 46 PB9 (io) "SPI2_NSS, I2C1_SDA,  IR_OUT,  TIM17_CH1, EVENTOUT", 47 VSS (power) "Ground", 48 VDD (power) "Digital power supply"

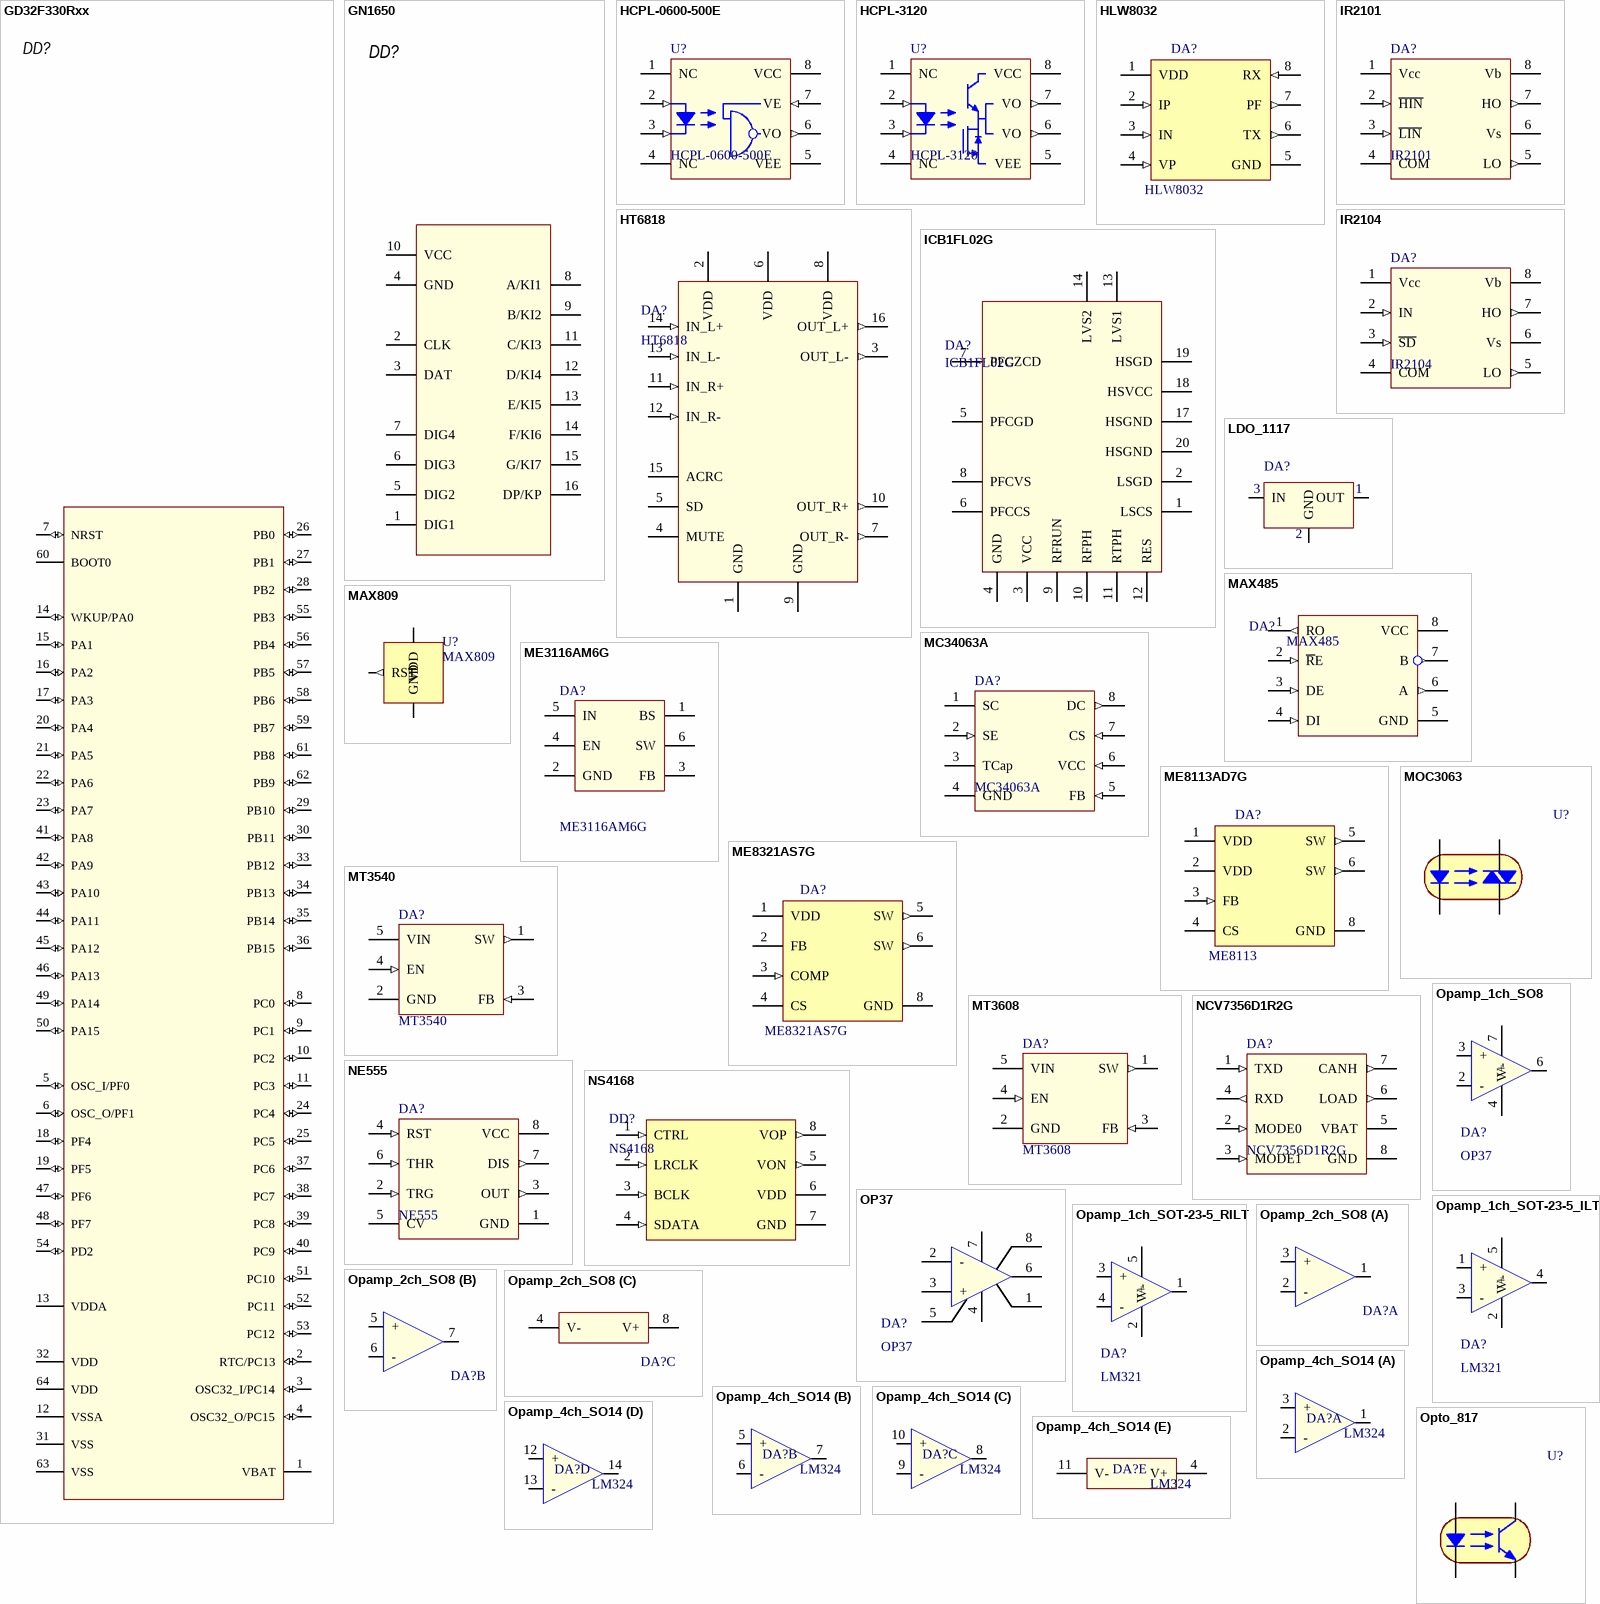
[diagram p9: symbols GD32F330Rxx to Opto_817]

## GD32F330Rxx
designator DD?  (value not drawn)
ARM Cortex-M4 MCU with 128 Kbytes Flash; Manufacturer: ST; Name: STM32F101RCT6; Group: Микросхемы; Value: Микроконтроллер; Supplier: ООО"Торгэлектроника"
footprint LQFP64
pins: 1 VBAT (power) "Analog power supply", 2 RTC/PC13 (io) "WKUP2,  RTC_TAMP1,  RTC_TS,  RTC_OUT", 3 OSC32_I/PC14 (io) "OSC32_IN", 4 OSC32_O/PC15 (io) "OSC32_OU", 5 OSC_I/PF0 (io) "I2C1_SDA, OSC_IN", 6 OSC_O/PF1 (io) "I2C1_SCL, OSC_OUT", 7 NRST (io) "Device reset input / internal reset output (active low)", 8 PC0 (io), 9 PC1 (io), 10 PC2 (io), 11 PC3 (io), 12 VSSA (power) "Analog ground", 13 VDDA (power) "Digital power supply", 14 WKUP/PA0 (io) "USART2_CTS,  USART4_TX  RTC_ TAMP2,  WKUP1, ADC_IN0,", 15 PA1 (io) "USART2_RTS,  TIM15_CH1N,  USART4_RX, EVENTOUT  ADC_IN1", 16 PA2 (io) "USART2_TX, TIM15_CH1 ADC_IN2, WKUP4", 17 PA3 (io) "USART2_RX, TIM15_CH2 ADC_IN3", 18 PF4 (io) "I2C1_SDA, OSC_IN", 19 PF5 (io) "I2C1_SCL, OSC_OUT", 20 PA4 (io) "SPI1_NSS, TIM14_CH1,  USART2_CK,  USB_NOE(3)  ADC_IN4", 21 PA5 (io) "SPI1_SCK ADC_IN5", 22 PA6 (io) "SPI1_MISO, TIM3_CH1,  TIM1_BKIN,  TIM16_CH1, EVENTOUT,  USART3_CTS  ADC_IN6", 23 PA7 (io) "SPI1_MOSI, TIM3_CH2,  TIM14_CH1,  TIM1_CH1N, TIM17_CH1,  EVENTOUT  ADC_IN7", 24 PC4 (io), 25 PC5 (io), 26 PB0 (io) "TIM3_CH3, TIM1_CH2N,  EVENTOUT,  USART3_CK  ADC_IN8", 27 PB1 (io) "TIM3_CH4,  USART3_RTS,  TIM14_CH1, TIM1_CH3N  ADC_IN9", 28 PB2 (io), 29 PB10 (io) "SPI2_SCK, USART3_TX", 30 PB11 (io) "USART3_RX,  EVENTOUT, I2C2_SDA", 31 VSS (power) "Graound", 32 VDD (power) "Digital power supply", 33 PB12 (io) "TIM1_BKIN, TIM15_BKIN,  SPI2_NSS, EVENTOUT,  USART3_CK", 34 PB13 (io) "SPI2_SCK, I2C2_SCL,  TIM1_CH1N,  USART3_CTS", 35 PB14 (io) "SPI2_MISO, I2C2_SDA,  TIM1_CH2N, TIM15_CH1,  USART3_RTS", 36 PB15 (io) "SPI2_MOSI, TIM1_CH3N,  TIM15_CH1N,  TIM15_CH2  WKUP7,  RTC_REFIN", 37 PC6 (io), 38 PC7 (io), 39 PC8 (io), 40 PC9 (io), 41 PA8 (io) "USART1_CK, TIM1_CH1,  EVENTOUT, MCO", 42 PA9 (io) "USART1_TX, TIM1_CH2,  TIM15_BKIN,  I2C1_SCL", 43 PA10 (io) "USART1_RX, TIM1_CH3,  TIM17_BKIN,  I2C1_SDA", 44 PA11 (io) "USART1_CTS,  TIM1_CH4, EVENTOUT USB_DM", 45 PA12 (io) "USART1_RTS,  TIM1_ETR, EVENTOUT USB_DP", 46 PA13 (io) "IR_OUT, SWDIO,  USB_NOE", 47 PF6 (io) "I2C1_SDA, OSC_IN", 48 PF7 (io) "I2C1_SCL, OSC_OUT", 49 PA14 (io) "USART2_TX, SWCLK", 50 PA15 (io) "SPI1_NSS, USART2_RX,  USART4_RTS,  EVENTOUT", 51 PC10 (io), 52 PC11 (io), 53 PC12 (io), 54 PD2 (io), 55 PB3 (io) "SPI1_SCK, EVENTOUT", 56 PB4 (io) "SPI1_MISO, TIM17_BKIN,  TIM3_CH1, EVENTOUT", 57 PB5 (io) "SPI1_MOSI, I2C1_SMBA,  TIM16_BKIN,  TIM3_CH2  WKUP6", 58 PB6 (io) "I2C1_SCL, USART1_TX,  TIM16_CH1N", 59 PB7 (io) "I2C1_SDA, USART1_RX,  USART4_CTS,  TIM17_C", 60 BOOT0 "Boot memory selection", 61 PB8 (io) "I2C1_SCL, TIM16_CH1", 62 PB9 (io) "SPI2_NSS, I2C1_SDA,  IR_OUT,  TIM17_CH1, EVENTOUT", 63 VSS (power) "Ground", 64 VDD (power) "Digital power supply"

## GN1650
designator DD?  (value not drawn)
LED drive control IC with keyboard scanning circuit interface, I2C, SOP16
footprint SO-16 (SOIC, 16-Leads, Body 9.9x3.9mm, Pitch 1.27mm)
pins: 1 DIG1 "Input sensor port", 2 CLK "Input sensor port", 3 DAT "Input sensor port", 4 GND "Input sensor port", 5 DIG2 "Input sensor port", 6 DIG3 "Input sensor port", 7 DIG4 "Input sensor port", 8 A/KI1 "Input sensor port", 9 B/KI2 "Input sensor port", 10 VCC "Input sensor port", 11 C/KI3 "Input sensor port", 12 D/KI4 "Input sensor port", 13 E/KI5 "Input sensor port", 14 F/KI6 "Input sensor port", 15 G/KI7 "Input sensor port", 16 DP/KP "Input sensor port"

## HCPL-0600-500E
designator U?
High Speed-10 MBit/s Logic Gate Optocoupler
pins: 1 NC (power), 2 A (in), 3 C (in), 4 NC (power), 5 VEE (power), 6 VO (out), 7 VE (in), 8 VCC (power)

## HCPL-3120
designator U?
Optocoupler, Phototransistor Output, MOSFET driver
pins: 1 NC (power), 2 A (in), 3 C (in), 4 NC (power), 5 VEE (power), 6 VO (out), 7 VO (out), 8 VCC (power)

## HLW8032
designator DA?
High-precision electric energy metering IC, which adopts CMOS manufacturing process and is mainly used in single-phase applications
footprint SO-8 (SOIC, 8-Leads, Body 4.9x3.9mm, Pitch 1.27mm)
pins: 1 VDD, 2 IP (in), 3 IN (in), 4 VP (in), 5 GND (power), 6 TX (out), 7 PF (out), 8 RX (in)

## HT6818
designator DA?
Filterless 3W Class-D Stereo Audio Amplifier, SOP-16
footprint SO-16 (SOIC, 16-Leads, Body 9.9x3.9mm, Pitch 1.27mm)
pins: 1 GND (power), 2 VDD (power), 3 OUT_L- (out), 4 MUTE (power), 5 SD, 6 VDD (power), 7 OUT_R- (out), 8 VDD (power), 9 GND (power), 10 OUT_R+ (out), 11 IN_R+ (in), 12 IN_R- (in), 13 IN_L- (in), 14 IN_L+ (in), 15 ACRC, 16 OUT_L+ (out)

## ICB1FL02G
designator DA?
Smart Ballast Control IC for / Fluorescent Lamp Ballasts
footprint PG-DSO-18-2 (SOP, 20-Leads, Body 12,80x7,50mm, Pitch 1,27mm, IPC Medium Density)
pins: 1 LSCS, 2 LSGD, 3 VCC, 4 GND, 5 PFCGD, 6 PFCCS, 7 PFCZCD, 8 PFCVS, 9 RFRUN, 10 RFPH, 11 RTPH, 12 RES, 13 LVS1, 14 LVS2, 17 HSGND, 18 HSVCC, 19 HSGD, 20 HSGND

## IR2101
designator DA?
HALF-BRIDGE DRIVER
footprint SO-8 (SOIC, 8-Leads, Body 4.9x3.9mm, Pitch 1.27mm)
pins: 1 Vcc (power), 2 ~{HIN} (in), 3 ~{LIN} (in), 4 COM (power), 5 LO (out), 6 Vs (power), 7 HO (out), 8 Vb (power)

## IR2104
designator DA?
HALF-BRIDGE DRIVER
footprint SO-8 (SOIC, 8-Leads, Body 4.9x3.9mm, Pitch 1.27mm)
pins: 1 Vcc (power), 2 IN (in), 3 ~{SD} (in), 4 COM (power), 5 LO (out), 6 Vs (power), 7 HO (out), 8 Vb (power)

## LDO_1117
designator DA?
footprint SOT-223 (SOT-223, 4-Leads, Body 6.5x3.5mm, Pitch 2.3mm, Lead Span 7mm, IPC Medium Density)
pins: X GND, Y OUT, Z IN
text: 3; 1; 2

## MAX485
designator DA?
RS-485/RS-422 Transceivers
pins: 1 RO (out) "Data Output", 2 ~{R}E (in) "Receiver Output Enable", 3 DE (in) "Driver Output Enable", 4 DI (in) "Data Input", 5 GND (power) "Ground", 6 A (out), 7 B (out), 8 VCC (power) "Supply voltage"

## MAX809
designator U?
Supervisor Push-Pull, 1 Channel SOT-23
pins: X GND (power), Y VDD, Z RST (out)

## MC34063A
designator DA?
DC TO DC CONVERTER CONTROLLER
footprint SO-8 (SOIC, 8-Leads, Body 4.9x3.9mm, Pitch 1.27mm)
pins: 1 SC (power) "Input sensor port", 2 SE (in) "Output active high or low selection,  1=>Active low; 0=>Active high", 3 TCap "Output type option pin,  1=>Toggle mode; 0=>Direct mode", 4 GND "Output type option pin,  1=>Toggle mode; 0=>Direct mode", 5 FB (in) "Ground", 6 VCC (in) "Ground", 7 CS (in) "Ground", 8 DC (out) "CMOS output pin"

## ME3116AM6G
designator DA?
Step-Down Positive Adjustable 40V input with a load up to 1A 550kHz SOT-23-6 DC-DC Converter
footprint SOT-23-6 (SOT23, 6-Leads, Body 2.9x1.3mm, Pitch 0.95mm, Lead Span 2.3mm, IPC Medium Density)
pins: 1 BS, 2 GND, 3 FB, 4 EN, 5 IN, 6 SW

## ME8113AD7G
designator DA?, comment ME8113
Fixed 65kHz Fsw high perfomance current mode flyback PWM controller, 18W open frame, DIP-7
footprint DIP8
pins: 1 VDD (power), 2 VDD, 3 FB (in), 4 CS (oc), 5 SW (out), 6 SW (out), 8 GND (power)

## ME8321AS7G
designator DA?
Primary side feedback quasi-resonant constant voltage constant current controller, SOP-7; LCPN: C526188; MFPN: ME8321AS7G-N; Supplier: JLC
footprint SOP-7 (SOIC, 7-Leads, Body 4.9x3.9mm, Pitch 1.27mm)
pins: 1 VDD (power), 2 FB, 3 COMP (in), 4 CS (oc), 5 SW (out), 6 SW (out), 8 GND (power)

## MOC3063
designator U?
footprint SO-6(Opto)
pins: 1 A, 2 C, 4 A1, 6 A2

## MT3540
designator DA?
Step Up Converter, 1.2MHz 1.5A, Up To 28V
footprint SOT-23-5 (SOT23, 5-Leads, Body 2.9x1.3mm, Pitch 0.95mm, Lead Span 2.3mm, IPC Medium Density)
pins: 1 SW (out) "CMOS output pin", 2 GND "Output type option pin,  1=>Toggle mode; 0=>Direct mode", 3 FB (in) "Ground", 4 EN (in) "Output active high or low selection,  1=>Active low; 0=>Active high", 5 VIN (power) "Input sensor port"

## MT3608
designator DA?
High Efficiency 1.2MHz 2A Step Up Converter
footprint SOT-23-6 (SOT23, 6-Leads, Body 2.9x1.3mm, Pitch 0.95mm, Lead Span 2.3mm, IPC Medium Density)
pins: 1 SW (out) "CMOS output pin", 2 GND "Output type option pin,  1=>Toggle mode; 0=>Direct mode", 3 FB (in) "Ground", 4 EN (in) "Output active high or low selection,  1=>Active low; 0=>Active high", 5 VIN (power) "Input sensor port"

## NCV7356D1R2G
designator DA?
1-Wire CAN Transceiver SOIC-8 CAN ICs ROHS
pins: 1 TXD (in), 2 MODE0 (in), 3 MODE1 (in), 4 RXD (out), 5 VBAT (power), 6 LOAD (out), 7 CANH (out), 8 GND (power)

## NE555
designator DA?
Timers / Clock Oscillators
pins: 1 GND (power), 2 TRG (in), 3 OUT (out), 4 RST (in), 5 CV (power), 6 THR (in), 7 DIS (out), 8 VCC (power)

## NS4168
designator DD?
2.5W mono class D audio power amplifier
pins: 1 CTRL (in), 2 LRCLK (in), 3 BCLK (in), 4 SDATA (in), 5 VON (out), 6 VDD (power), 7 GND (power), 8 VOP (out)

## OP37
designator DA?
Low Noise, Precision, High Speed Operational Amplifier
pins: 1 Vos TRIM, 2 -, 3 +, 4 V-, 5 NC, 6 OUT, 7 V+, 8 Vos TRIM

## Opamp_1ch_SO8
designator DA?, comment OP37
Low Noise, Precision, High Speed Operational Amplifier
pins: 2 -, 3 +, 4 V-, 6 OUT, 7 V+

## Opamp_1ch_SOT-23-5_ILT
designator DA?, comment LM321
Operational Amplifier, 1,3 - Input, 4 - Output
pins: 1 +, 2 V-, 3 -, 4 OUT, 5 V+

## Opamp_1ch_SOT-23-5_RILT
designator DA?, comment LM321
Operational Amplifier, 3,4 - Input, 1 - Output
pins: 1 OUT, 2 V-, 3 +, 4 -, 5 V+

## Opamp_2ch_SO8
designator DA?, comment LM393  (value not drawn)
Dual differential comparator
part A pins: 1 OUT, 2 -, 3 +
part B pins: 5 +, 6 -, 7 OUT
part C pins: 4 V-, 8 V+

## Opamp_4ch_SO14
designator DA?, comment LM324
these devices consist of four independent high-gain frequency-compensated operational amplifiers that are designed sp...; Package: None; MP: LM324; Price: None; Availability: Unavailable; Value: *
part A pins: 1 OUTPUT1, 2 -, 3 +
part B pins: 5 +, 6 -, 7 OUTPUT2
part C pins: 8 OUTPUT4, 9 -, 10 +
part D pins: 12 +, 13 -, 14 OUTPUT4
part E pins: 4 V+, 11 V-

## Opto_817
designator U?
pins: 1 A, 2 C, 3 E, 4 C

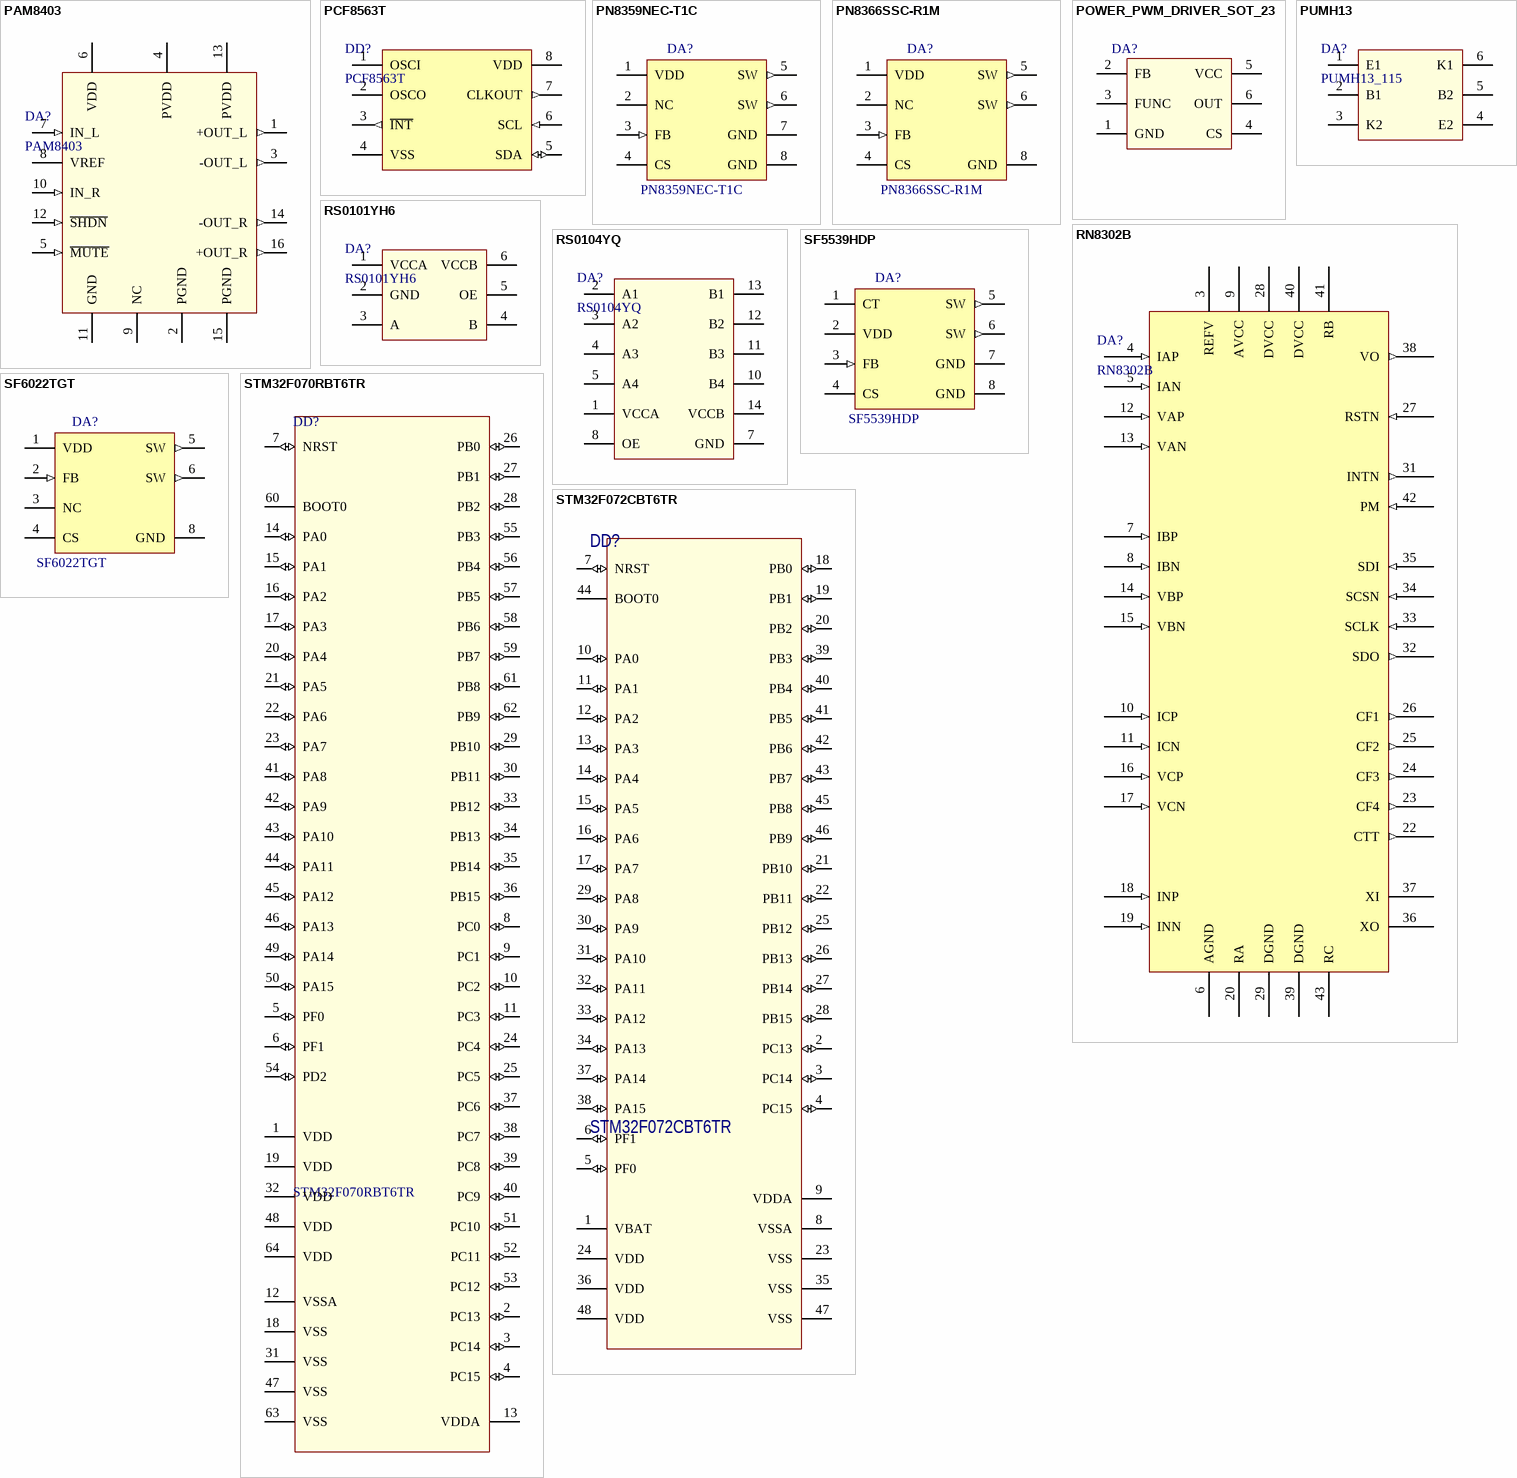
[diagram p10: symbols PAM8403 to STM32F072CBT6TR]